# Altium integrated library NXP_60_26022015.IntLib: 1306 symbols (part 10 of 28)
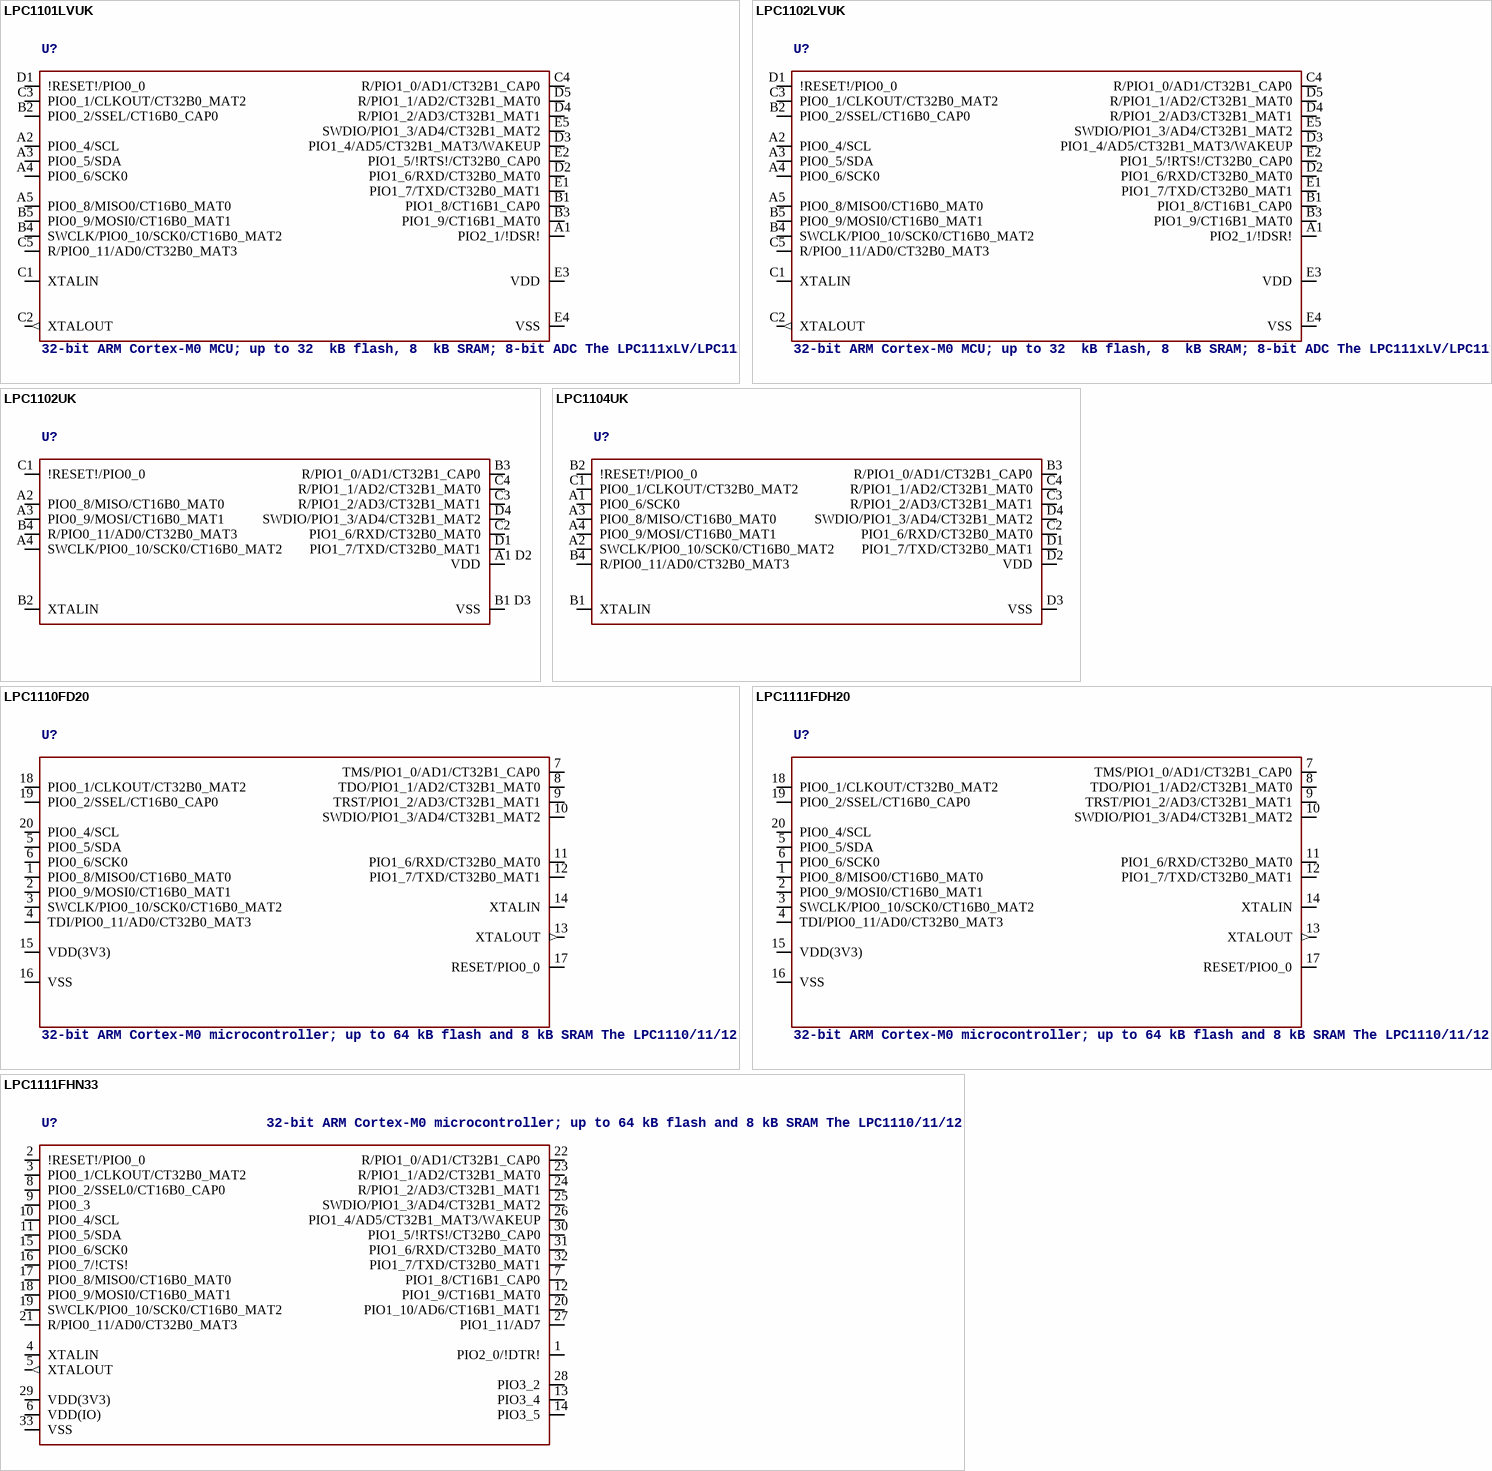
[diagram p194: symbols LPC1101LVUK to LPC1111FHN33]

## LPC1102LVUK
designator U?, comment 32-bit ARM Cortex-M0 MCU; up to 32  kB flash, 8  kB SRAM; 8-bit ADC The LPC111xLV/LPC11xxLVUK is an ARM Cortex-M0-based, low-cost 32-bit MCU family, designed for 8/16-bit microcontroller applications, offering performance, low power, simple instruction set and memory addressing together with reduced code size compared to existing 8/16-bit architectures. The LPC111xLV/LPC11xxLVUK operate at CPU frequencies of up to 50 MHz. The peripherals of the LPC111xLV/LPC11xxLVUK include up to 32 kB of flash memory, up to 8 kB of SRAM data memory, a Fast-mode Plus I 2 C-bus interface, one SSP/SPI interface, one UART, four general-purpose counter/timers, an 8-bit ADC, and up to 27 general-purpose I/O pins.    AAL Eindhoven MK
footprint WLCSP25
pins: A1 PIO2_1/!DSR!, A2 PIO0_4/SCL, A3 PIO0_5/SDA, A4 PIO0_6/SCK0, A5 PIO0_8/MISO0/CT16B0_MAT0, B1 PIO1_8/CT16B1_CAP0, B2 PIO0_2/SSEL/CT16B0_CAP0, B3 PIO1_9/CT16B1_MAT0, B4 SWCLK/PIO0_10/SCK0/CT16B0_MAT2, B5 PIO0_9/MOSI0/CT16B0_MAT1, C1 XTALIN, C2 XTALOUT (out), C3 PIO0_1/CLKOUT/CT32B0_MAT2, C4 R/PIO1_0/AD1/CT32B1_CAP0, C5 R/PIO0_11/AD0/CT32B0_MAT3, D1 !RESET!/PIO0_0, D2 PIO1_6/RXD/CT32B0_MAT0, D3 PIO1_4/AD5/CT32B1_MAT3/WAKEUP, D4 R/PIO1_2/AD3/CT32B1_MAT1, D5 R/PIO1_1/AD2/CT32B1_MAT0, E1 PIO1_7/TXD/CT32B0_MAT1, E2 PIO1_5/!RTS!/CT32B0_CAP0, E3 VDD (power), E4 VSS (power), E5 SWDIO/PIO1_3/AD4/CT32B1_MAT2

## LPC1102UK
designator U?
footprint WLCSP16
pins: A1 D2 VDD (power), A2 PIO0_8/MISO/CT16B0_MAT0, A3 PIO0_9/MOSI/CT16B0_MAT1, A4 SWCLK/PIO0_10/SCK0/CT16B0_MAT2, B1 D3 VSS (power), B2 XTALIN, B3 R/PIO1_0/AD1/CT32B1_CAP0, B4 R/PIO0_11/AD0/CT32B0_MAT3, C1 !RESET!/PIO0_0, C2 PIO1_6/RXD/CT32B0_MAT0, C3 R/PIO1_2/AD3/CT32B1_MAT1, C4 R/PIO1_1/AD2/CT32B1_MAT0, D1 PIO1_7/TXD/CT32B0_MAT1, D4 SWDIO/PIO1_3/AD4/CT32B1_MAT2

## LPC1104UK
designator U?
footprint WLCSP16
pins: A1 PIO0_6/SCK0, A2 SWCLK/PIO0_10/SCK0/CT16B0_MAT2, A3 PIO0_8/MISO/CT16B0_MAT0, A4 PIO0_9/MOSI/CT16B0_MAT1, B1 XTALIN, B2 !RESET!/PIO0_0, B3 R/PIO1_0/AD1/CT32B1_CAP0, B4 R/PIO0_11/AD0/CT32B0_MAT3, C1 PIO0_1/CLKOUT/CT32B0_MAT2, C2 PIO1_6/RXD/CT32B0_MAT0, C3 R/PIO1_2/AD3/CT32B1_MAT1, C4 R/PIO1_1/AD2/CT32B1_MAT0, D1 PIO1_7/TXD/CT32B0_MAT1, D2 VDD (power), D3 VSS (power), D4 SWDIO/PIO1_3/AD4/CT32B1_MAT2

## LPC1110FD20
designator U?, comment 32-bit ARM Cortex-M0 microcontroller; up to 64 kB flash and 8 kB SRAM The LPC1110/11/12/13/14/15 are a ARM Cortex-M0 based, low-cost 32-bit MCU family, designed for 8/16-bit microcontroller applications, offering performance, low power, simple instruction set and memory addressing together with reduced code size compared to existing 8/16-bit architectures. The LPC1110/11/12/13/14/15 operate at CPU frequencies of up to 50 MHz. The peripheral complement of the LPC1110/11/12/13/14/15 includes up to 64 kB of flash memory, up to 8 kB of data memory, one Fast-mode Plus I 2 C-bus interface, one RS-485/EIA-485 UART, up to two SPI interfaces with SSP features, four general purpose counter/timers, a 10-bit ADC, and up to 42 general purpose I/O pins. Remark: The LPC111x series consists of the LPC1100 series (parts LPC111x/101/201/301), LPC1100L series (parts LPC111x/002/102/202/302), and the LPC1100XL series (parts LPC111x/103/203/303/323/333). The LPC1100L and LPC1100XL series include the power profiles, a windowed watchdog timer, and a configurable open-drain mode.    AAL Eindhoven MK
ADC: 5; FLASH: 4kB; GPIO: 16; PWR_PROFILES: yes; SPI: 1; SRAM: 1kB; SERIES: LPC1100L
footprint SOT163-1
pins: 1 PIO0_8/MISO0/CT16B0_MAT0, 2 PIO0_9/MOSI0/CT16B0_MAT1, 3 SWCLK/PIO0_10/SCK0/CT16B0_MAT2, 4 TDI/PIO0_11/AD0/CT32B0_MAT3, 5 PIO0_5/SDA, 6 PIO0_6/SCK0, 7 TMS/PIO1_0/AD1/CT32B1_CAP0, 8 TDO/PIO1_1/AD2/CT32B1_MAT0, 9 TRST/PIO1_2/AD3/CT32B1_MAT1, 10 SWDIO/PIO1_3/AD4/CT32B1_MAT2, 11 PIO1_6/RXD/CT32B0_MAT0, 12 PIO1_7/TXD/CT32B0_MAT1, 13 XTALOUT (out), 14 XTALIN, 15 VDD(3V3) (power), 16 VSS (power), 17 RESET/PIO0_0, 18 PIO0_1/CLKOUT/CT32B0_MAT2, 19 PIO0_2/SSEL/CT16B0_CAP0, 20 PIO0_4/SCL

## LPC1111FDH20
designator U?, comment 32-bit ARM Cortex-M0 microcontroller; up to 64 kB flash and 8 kB SRAM The LPC1110/11/12/13/14/15 are a ARM Cortex-M0 based, low-cost 32-bit MCU family, designed for 8/16-bit microcontroller applications, offering performance, low power, simple instruction set and memory addressing together with reduced code size compared to existing 8/16-bit architectures. The LPC1110/11/12/13/14/15 operate at CPU frequencies of up to 50 MHz. The peripheral complement of the LPC1110/11/12/13/14/15 includes up to 64 kB of flash memory, up to 8 kB of data memory, one Fast-mode Plus I 2 C-bus interface, one RS-485/EIA-485 UART, up to two SPI interfaces with SSP features, four general purpose counter/timers, a 10-bit ADC, and up to 42 general purpose I/O pins. Remark: The LPC111x series consists of the LPC1100 series (parts LPC111x/101/201/301), LPC1100L series (parts LPC111x/002/102/202/302), and the LPC1100XL series (parts LPC111x/103/203/303/323/333). The LPC1100L and LPC1100XL series include the power profiles, a windowed watchdog timer, and a configurable open-drain mode.    AAL Eindhoven MK
ADC: 5; FLASH: 8kB; GPIO: 16; PWR_PROFILES: yes; SPI: 1; SRAM: 2kB; SERIES: LPC1100L
footprint SOT360
pins: 1 PIO0_8/MISO0/CT16B0_MAT0, 2 PIO0_9/MOSI0/CT16B0_MAT1, 3 SWCLK/PIO0_10/SCK0/CT16B0_MAT2, 4 TDI/PIO0_11/AD0/CT32B0_MAT3, 5 PIO0_5/SDA, 6 PIO0_6/SCK0, 7 TMS/PIO1_0/AD1/CT32B1_CAP0, 8 TDO/PIO1_1/AD2/CT32B1_MAT0, 9 TRST/PIO1_2/AD3/CT32B1_MAT1, 10 SWDIO/PIO1_3/AD4/CT32B1_MAT2, 11 PIO1_6/RXD/CT32B0_MAT0, 12 PIO1_7/TXD/CT32B0_MAT1, 13 XTALOUT (out), 14 XTALIN, 15 VDD(3V3) (power), 16 VSS (power), 17 RESET/PIO0_0, 18 PIO0_1/CLKOUT/CT32B0_MAT2, 19 PIO0_2/SSEL/CT16B0_CAP0, 20 PIO0_4/SCL

## LPC1111FHN33
designator U?, comment 32-bit ARM Cortex-M0 microcontroller; up to 64 kB flash and 8 kB SRAM The LPC1110/11/12/13/14/15 are a ARM Cortex-M0 based, low-cost 32-bit MCU family, designed for 8/16-bit microcontroller applications, offering performance, low power, simple instruction set and memory addressing together with reduced code size compared to existing 8/16-bit architectures. The LPC1110/11/12/13/14/15 operate at CPU frequencies of up to 50 MHz. The peripheral complement of the LPC1110/11/12/13/14/15 includes up to 64 kB of flash memory, up to 8 kB of data memory, one Fast-mode Plus I 2 C-bus interface, one RS-485/EIA-485 UART, up to two SPI interfaces with SSP features, four general purpose counter/timers, a 10-bit ADC, and up to 42 general purpose I/O pins. Remark: The LPC111x series consists of the LPC1100 series (parts LPC111x/101/201/301), LPC1100L series (parts LPC111x/002/102/202/302), and the LPC1100XL series (parts LPC111x/103/203/303/323/333). The LPC1100L and LPC1100XL series include the power profiles, a windowed watchdog timer, and a configurable open-drain mode.    AAL Eindhoven MK
ADC: 8; FLASH: 8kB; GPIO: 28; PWR_PROFILES: no; SPI: 1; SRAM: 2kB; PWR_PROFILES: yes; SRAM: 4kB; SERIES: LPC1100; SERIES: LPC1100L; FLASH: 8KB
footprint SOT-HVQFN33
pins: 1 PIO2_0/!DTR!, 2 !RESET!/PIO0_0, 3 PIO0_1/CLKOUT/CT32B0_MAT2, 4 XTALIN, 5 XTALOUT (out), 6 VDD(IO) (power), 7 PIO1_8/CT16B1_CAP0, 8 PIO0_2/SSEL0/CT16B0_CAP0, 9 PIO0_3, 10 PIO0_4/SCL, 11 PIO0_5/SDA, 12 PIO1_9/CT16B1_MAT0, 13 PIO3_4, 14 PIO3_5, 15 PIO0_6/SCK0, 16 PIO0_7/!CTS!, 17 PIO0_8/MISO0/CT16B0_MAT0, 18 PIO0_9/MOSI0/CT16B0_MAT1, 19 SWCLK/PIO0_10/SCK0/CT16B0_MAT2, 20 PIO1_10/AD6/CT16B1_MAT1, 21 R/PIO0_11/AD0/CT32B0_MAT3, 22 R/PIO1_0/AD1/CT32B1_CAP0, 23 R/PIO1_1/AD2/CT32B1_MAT0, 24 R/PIO1_2/AD3/CT32B1_MAT1, 25 SWDIO/PIO1_3/AD4/CT32B1_MAT2, 26 PIO1_4/AD5/CT32B1_MAT3/WAKEUP, 27 PIO1_11/AD7, 28 PIO3_2, 29 VDD(3V3) (power), 30 PIO1_5/!RTS!/CT32B0_CAP0, 31 PIO1_6/RXD/CT32B0_MAT0, 32 PIO1_7/TXD/CT32B0_MAT1, 33 VSS (power)

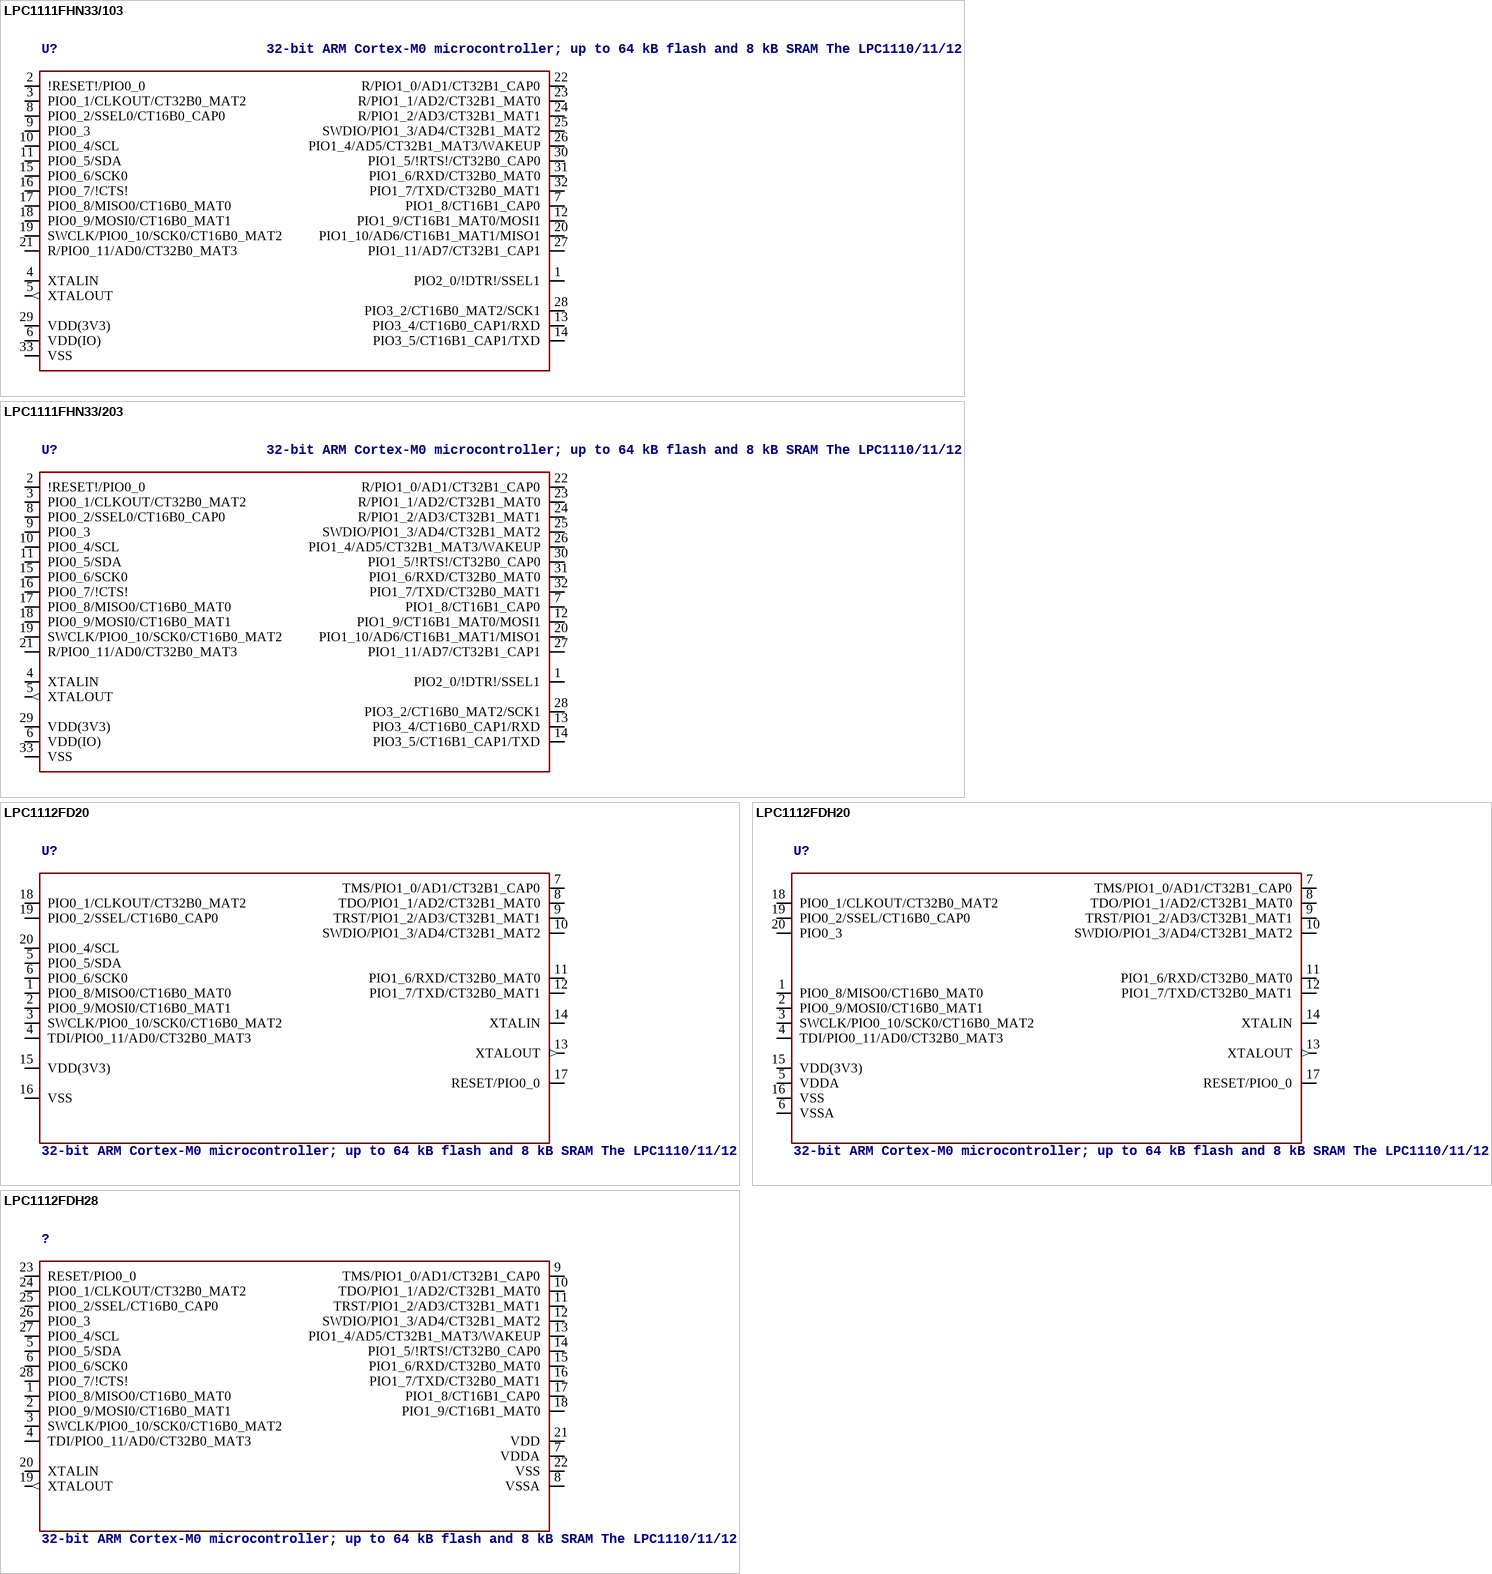
[diagram p57: symbols LPC1111FHN33/103 to LPC1112FDH28]

## LPC1111FHN33/103
designator U?, comment 32-bit ARM Cortex-M0 microcontroller; up to 64 kB flash and 8 kB SRAM The LPC1110/11/12/13/14/15 are a ARM Cortex-M0 based, low-cost 32-bit MCU family, designed for 8/16-bit microcontroller applications, offering performance, low power, simple instruction set and memory addressing together with reduced code size compared to existing 8/16-bit architectures. The LPC1110/11/12/13/14/15 operate at CPU frequencies of up to 50 MHz. The peripheral complement of the LPC1110/11/12/13/14/15 includes up to 64 kB of flash memory, up to 8 kB of data memory, one Fast-mode Plus I 2 C-bus interface, one RS-485/EIA-485 UART, up to two SPI interfaces with SSP features, four general purpose counter/timers, a 10-bit ADC, and up to 42 general purpose I/O pins. Remark: The LPC111x series consists of the LPC1100 series (parts LPC111x/101/201/301), LPC1100L series (parts LPC111x/002/102/202/302), and the LPC1100XL series (parts LPC111x/103/203/303/323/333). The LPC1100L and LPC1100XL series include the power profiles, a windowed watchdog timer, and a configurable open-drain mode.    AAL Eindhoven MK
ADC: 8; FLASH: 8kB; GPIO: 28; PWR_PROFILES: yes; SPI: 2; SRAM: 2kB; SERIES: LPC1100XL
footprint SOT-HVQFN33
pins: 1 PIO2_0/!DTR!/SSEL1, 2 !RESET!/PIO0_0, 3 PIO0_1/CLKOUT/CT32B0_MAT2, 4 XTALIN, 5 XTALOUT (out), 6 VDD(IO) (power), 7 PIO1_8/CT16B1_CAP0, 8 PIO0_2/SSEL0/CT16B0_CAP0, 9 PIO0_3, 10 PIO0_4/SCL, 11 PIO0_5/SDA, 12 PIO1_9/CT16B1_MAT0/MOSI1, 13 PIO3_4/CT16B0_CAP1/RXD, 14 PIO3_5/CT16B1_CAP1/TXD, 15 PIO0_6/SCK0, 16 PIO0_7/!CTS!, 17 PIO0_8/MISO0/CT16B0_MAT0, 18 PIO0_9/MOSI0/CT16B0_MAT1, 19 SWCLK/PIO0_10/SCK0/CT16B0_MAT2, 20 PIO1_10/AD6/CT16B1_MAT1/MISO1, 21 R/PIO0_11/AD0/CT32B0_MAT3, 22 R/PIO1_0/AD1/CT32B1_CAP0, 23 R/PIO1_1/AD2/CT32B1_MAT0, 24 R/PIO1_2/AD3/CT32B1_MAT1, 25 SWDIO/PIO1_3/AD4/CT32B1_MAT2, 26 PIO1_4/AD5/CT32B1_MAT3/WAKEUP, 27 PIO1_11/AD7/CT32B1_CAP1, 28 PIO3_2/CT16B0_MAT2/SCK1, 29 VDD(3V3) (power), 30 PIO1_5/!RTS!/CT32B0_CAP0, 31 PIO1_6/RXD/CT32B0_MAT0, 32 PIO1_7/TXD/CT32B0_MAT1, 33 VSS (power)

## LPC1111FHN33/203
designator U?, comment 32-bit ARM Cortex-M0 microcontroller; up to 64 kB flash and 8 kB SRAM The LPC1110/11/12/13/14/15 are a ARM Cortex-M0 based, low-cost 32-bit MCU family, designed for 8/16-bit microcontroller applications, offering performance, low power, simple instruction set and memory addressing together with reduced code size compared to existing 8/16-bit architectures. The LPC1110/11/12/13/14/15 operate at CPU frequencies of up to 50 MHz. The peripheral complement of the LPC1110/11/12/13/14/15 includes up to 64 kB of flash memory, up to 8 kB of data memory, one Fast-mode Plus I 2 C-bus interface, one RS-485/EIA-485 UART, up to two SPI interfaces with SSP features, four general purpose counter/timers, a 10-bit ADC, and up to 42 general purpose I/O pins. Remark: The LPC111x series consists of the LPC1100 series (parts LPC111x/101/201/301), LPC1100L series (parts LPC111x/002/102/202/302), and the LPC1100XL series (parts LPC111x/103/203/303/323/333). The LPC1100L and LPC1100XL series include the power profiles, a windowed watchdog timer, and a configurable open-drain mode.    AAL Eindhoven MK
ADC: 8; FLASH: 8kB; GPIO: 28; PWR_PROFILES: yes; SPI: 2; SRAM: 4kB; SERIES: LPC1100XL
footprint SOT-HVQFN33
pins: 1 PIO2_0/!DTR!/SSEL1, 2 !RESET!/PIO0_0, 3 PIO0_1/CLKOUT/CT32B0_MAT2, 4 XTALIN, 5 XTALOUT (out), 6 VDD(IO) (power), 7 PIO1_8/CT16B1_CAP0, 8 PIO0_2/SSEL0/CT16B0_CAP0, 9 PIO0_3, 10 PIO0_4/SCL, 11 PIO0_5/SDA, 12 PIO1_9/CT16B1_MAT0/MOSI1, 13 PIO3_4/CT16B0_CAP1/RXD, 14 PIO3_5/CT16B1_CAP1/TXD, 15 PIO0_6/SCK0, 16 PIO0_7/!CTS!, 17 PIO0_8/MISO0/CT16B0_MAT0, 18 PIO0_9/MOSI0/CT16B0_MAT1, 19 SWCLK/PIO0_10/SCK0/CT16B0_MAT2, 20 PIO1_10/AD6/CT16B1_MAT1/MISO1, 21 R/PIO0_11/AD0/CT32B0_MAT3, 22 R/PIO1_0/AD1/CT32B1_CAP0, 23 R/PIO1_1/AD2/CT32B1_MAT0, 24 R/PIO1_2/AD3/CT32B1_MAT1, 25 SWDIO/PIO1_3/AD4/CT32B1_MAT2, 26 PIO1_4/AD5/CT32B1_MAT3/WAKEUP, 27 PIO1_11/AD7/CT32B1_CAP1, 28 PIO3_2/CT16B0_MAT2/SCK1, 29 VDD(3V3) (power), 30 PIO1_5/!RTS!/CT32B0_CAP0, 31 PIO1_6/RXD/CT32B0_MAT0, 32 PIO1_7/TXD/CT32B0_MAT1, 33 VSS (power)

## LPC1112FD20
designator U?, comment 32-bit ARM Cortex-M0 microcontroller; up to 64 kB flash and 8 kB SRAM The LPC1110/11/12/13/14/15 are a ARM Cortex-M0 based, low-cost 32-bit MCU family, designed for 8/16-bit microcontroller applications, offering performance, low power, simple instruction set and memory addressing together with reduced code size compared to existing 8/16-bit architectures. The LPC1110/11/12/13/14/15 operate at CPU frequencies of up to 50 MHz. The peripheral complement of the LPC1110/11/12/13/14/15 includes up to 64 kB of flash memory, up to 8 kB of data memory, one Fast-mode Plus I 2 C-bus interface, one RS-485/EIA-485 UART, up to two SPI interfaces with SSP features, four general purpose counter/timers, a 10-bit ADC, and up to 42 general purpose I/O pins. Remark: The LPC111x series consists of the LPC1100 series (parts LPC111x/101/201/301), LPC1100L series (parts LPC111x/002/102/202/302), and the LPC1100XL series (parts LPC111x/103/203/303/323/333). The LPC1100L and LPC1100XL series include the power profiles, a windowed watchdog timer, and a configurable open-drain mode.    AAL Eindhoven MK
ADC: 5; FLASH: 16kB; GPIO: 16; PWR_PROFILES: yes; SPI: 1; SRAM: 4kB; SERIES: LPC1100L
footprint SOT163-1
pins: 1 PIO0_8/MISO0/CT16B0_MAT0, 2 PIO0_9/MOSI0/CT16B0_MAT1, 3 SWCLK/PIO0_10/SCK0/CT16B0_MAT2, 4 TDI/PIO0_11/AD0/CT32B0_MAT3, 5 PIO0_5/SDA, 6 PIO0_6/SCK0, 7 TMS/PIO1_0/AD1/CT32B1_CAP0, 8 TDO/PIO1_1/AD2/CT32B1_MAT0, 9 TRST/PIO1_2/AD3/CT32B1_MAT1, 10 SWDIO/PIO1_3/AD4/CT32B1_MAT2, 11 PIO1_6/RXD/CT32B0_MAT0, 12 PIO1_7/TXD/CT32B0_MAT1, 13 XTALOUT (out), 14 XTALIN, 15 VDD(3V3) (power), 16 VSS (power), 17 RESET/PIO0_0, 18 PIO0_1/CLKOUT/CT32B0_MAT2, 19 PIO0_2/SSEL/CT16B0_CAP0, 20 PIO0_4/SCL

## LPC1112FDH20
designator U?, comment 32-bit ARM Cortex-M0 microcontroller; up to 64 kB flash and 8 kB SRAM The LPC1110/11/12/13/14/15 are a ARM Cortex-M0 based, low-cost 32-bit MCU family, designed for 8/16-bit microcontroller applications, offering performance, low power, simple instruction set and memory addressing together with reduced code size compared to existing 8/16-bit architectures. The LPC1110/11/12/13/14/15 operate at CPU frequencies of up to 50 MHz. The peripheral complement of the LPC1110/11/12/13/14/15 includes up to 64 kB of flash memory, up to 8 kB of data memory, one Fast-mode Plus I 2 C-bus interface, one RS-485/EIA-485 UART, up to two SPI interfaces with SSP features, four general purpose counter/timers, a 10-bit ADC, and up to 42 general purpose I/O pins. Remark: The LPC111x series consists of the LPC1100 series (parts LPC111x/101/201/301), LPC1100L series (parts LPC111x/002/102/202/302), and the LPC1100XL series (parts LPC111x/103/203/303/323/333). The LPC1100L and LPC1100XL series include the power profiles, a windowed watchdog timer, and a configurable open-drain mode.    AAL Eindhoven MK
ADC: 5; FLASH: 16kB; GPIO: 14; PWR_PROFILES: yes; SPI: 1; SRAM: 4kB; SERIES: LPC1100L
footprint SOT360
pins: 1 PIO0_8/MISO0/CT16B0_MAT0, 2 PIO0_9/MOSI0/CT16B0_MAT1, 3 SWCLK/PIO0_10/SCK0/CT16B0_MAT2, 4 TDI/PIO0_11/AD0/CT32B0_MAT3, 5 VDDA (power), 6 VSSA (power), 7 TMS/PIO1_0/AD1/CT32B1_CAP0, 8 TDO/PIO1_1/AD2/CT32B1_MAT0, 9 TRST/PIO1_2/AD3/CT32B1_MAT1, 10 SWDIO/PIO1_3/AD4/CT32B1_MAT2, 11 PIO1_6/RXD/CT32B0_MAT0, 12 PIO1_7/TXD/CT32B0_MAT1, 13 XTALOUT (out), 14 XTALIN, 15 VDD(3V3) (power), 16 VSS (power), 17 RESET/PIO0_0, 18 PIO0_1/CLKOUT/CT32B0_MAT2, 19 PIO0_2/SSEL/CT16B0_CAP0, 20 PIO0_3

## LPC1112FDH28
designator ?, comment 32-bit ARM Cortex-M0 microcontroller; up to 64 kB flash and 8 kB SRAM The LPC1110/11/12/13/14/15 are a ARM Cortex-M0 based, low-cost 32-bit MCU family, designed for 8/16-bit microcontroller applications, offering performance, low power, simple instruction set and memory addressing together with reduced code size compared to existing 8/16-bit architectures. The LPC1110/11/12/13/14/15 operate at CPU frequencies of up to 50 MHz. The peripheral complement of the LPC1110/11/12/13/14/15 includes up to 64 kB of flash memory, up to 8 kB of data memory, one Fast-mode Plus I 2 C-bus interface, one RS-485/EIA-485 UART, up to two SPI interfaces with SSP features, four general purpose counter/timers, a 10-bit ADC, and up to 42 general purpose I/O pins. Remark: The LPC111x series consists of the LPC1100 series (parts LPC111x/101/201/301), LPC1100L series (parts LPC111x/002/102/202/302), and the LPC1100XL series (parts LPC111x/103/203/303/323/333). The LPC1100L and LPC1100XL series include the power profiles, a windowed watchdog timer, and a configurable open-drain mode.    AAL Eindhoven MK
ADC: 6; FLASH: 16kB; GPIO: 22; PWR_PROFILES: yes; SPI: 1; SRAM: 4kB; SERIES: LPC1100L
footprint SOT361-1
pins: 1 PIO0_8/MISO0/CT16B0_MAT0, 2 PIO0_9/MOSI0/CT16B0_MAT1, 3 SWCLK/PIO0_10/SCK0/CT16B0_MAT2, 4 TDI/PIO0_11/AD0/CT32B0_MAT3, 5 PIO0_5/SDA, 6 PIO0_6/SCK0, 7 VDDA (power), 8 VSSA (power), 9 TMS/PIO1_0/AD1/CT32B1_CAP0, 10 TDO/PIO1_1/AD2/CT32B1_MAT0, 11 TRST/PIO1_2/AD3/CT32B1_MAT1, 12 SWDIO/PIO1_3/AD4/CT32B1_MAT2, 13 PIO1_4/AD5/CT32B1_MAT3/WAKEUP, 14 PIO1_5/!RTS!/CT32B0_CAP0, 15 PIO1_6/RXD/CT32B0_MAT0, 16 PIO1_7/TXD/CT32B0_MAT1, 17 PIO1_8/CT16B1_CAP0, 18 PIO1_9/CT16B1_MAT0, 19 XTALOUT (out), 20 XTALIN, 21 VDD (power), 22 VSS (power), 23 RESET/PIO0_0, 24 PIO0_1/CLKOUT/CT32B0_MAT2, 25 PIO0_2/SSEL/CT16B0_CAP0, 26 PIO0_3, 27 PIO0_4/SCL, 28 PIO0_7/!CTS!

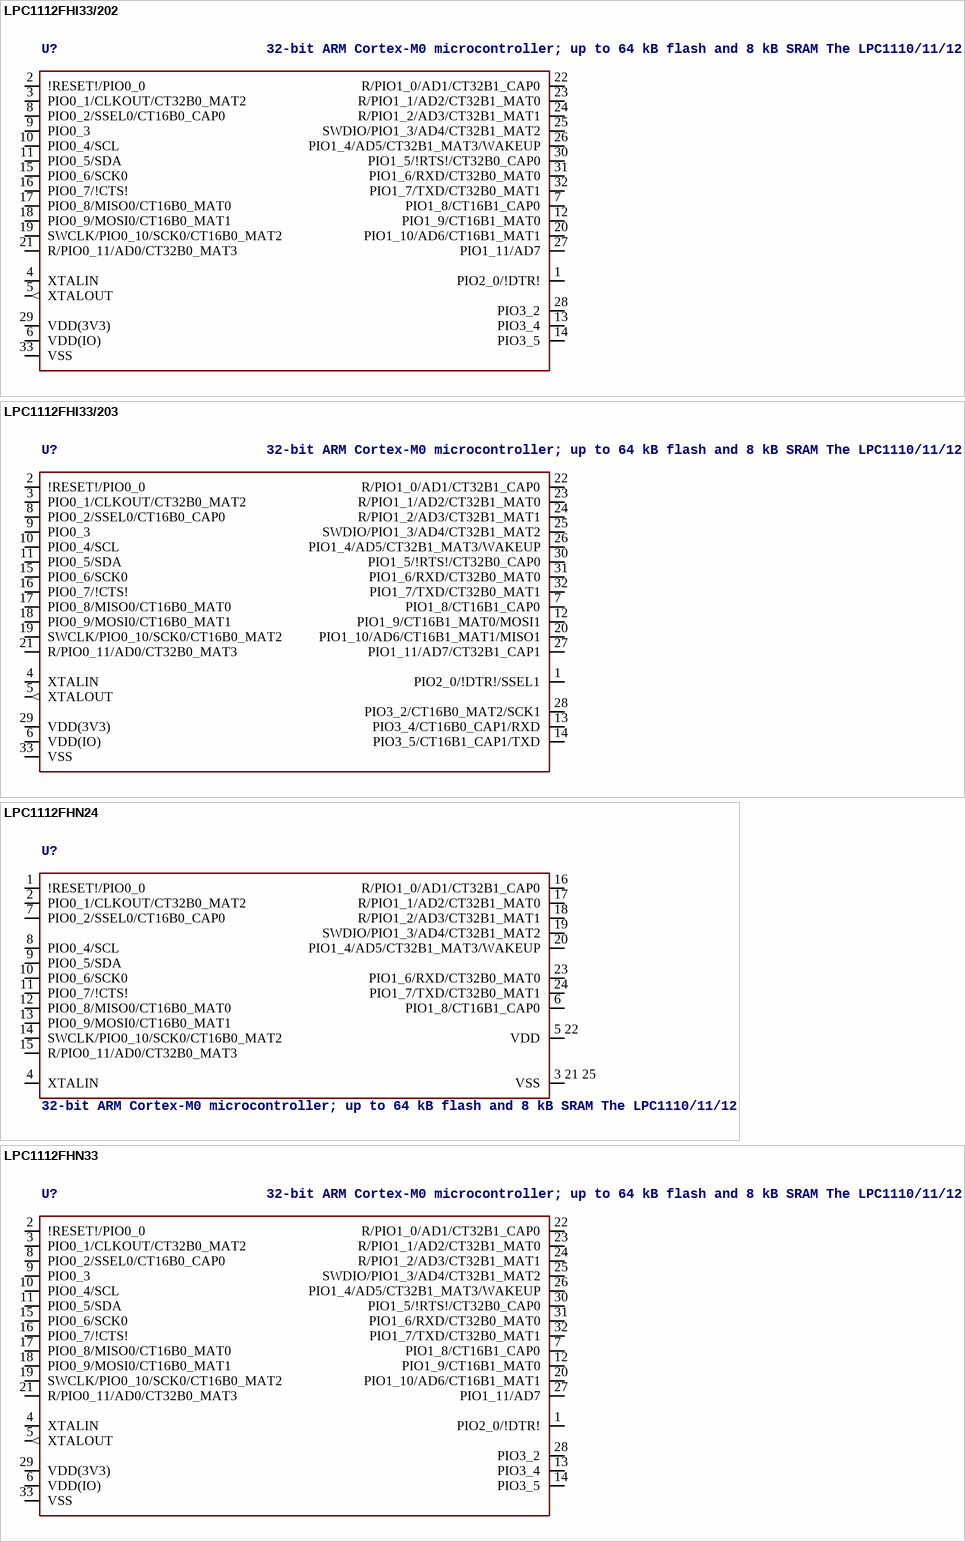
[diagram p58: symbols LPC1112FHI33/202 to LPC1112FHN33]

## LPC1112FHI33/202
designator U?, comment 32-bit ARM Cortex-M0 microcontroller; up to 64 kB flash and 8 kB SRAM The LPC1110/11/12/13/14/15 are a ARM Cortex-M0 based, low-cost 32-bit MCU family, designed for 8/16-bit microcontroller applications, offering performance, low power, simple instruction set and memory addressing together with reduced code size compared to existing 8/16-bit architectures. The LPC1110/11/12/13/14/15 operate at CPU frequencies of up to 50 MHz. The peripheral complement of the LPC1110/11/12/13/14/15 includes up to 64 kB of flash memory, up to 8 kB of data memory, one Fast-mode Plus I 2 C-bus interface, one RS-485/EIA-485 UART, up to two SPI interfaces with SSP features, four general purpose counter/timers, a 10-bit ADC, and up to 42 general purpose I/O pins. Remark: The LPC111x series consists of the LPC1100 series (parts LPC111x/101/201/301), LPC1100L series (parts LPC111x/002/102/202/302), and the LPC1100XL series (parts LPC111x/103/203/303/323/333). The LPC1100L and LPC1100XL series include the power profiles, a windowed watchdog timer, and a configurable open-drain mode.    AAL Eindhoven MK
ADC: 8; FLASH: 16kB; GPIO: 28; PWR_PROFILES: yes; SPI: 1; SRAM: 4kB; SERIES: LPC1100L
footprint SOT617-3
pins: 1 PIO2_0/!DTR!, 2 !RESET!/PIO0_0, 3 PIO0_1/CLKOUT/CT32B0_MAT2, 4 XTALIN, 5 XTALOUT (out), 6 VDD(IO) (power), 7 PIO1_8/CT16B1_CAP0, 8 PIO0_2/SSEL0/CT16B0_CAP0, 9 PIO0_3, 10 PIO0_4/SCL, 11 PIO0_5/SDA, 12 PIO1_9/CT16B1_MAT0, 13 PIO3_4, 14 PIO3_5, 15 PIO0_6/SCK0, 16 PIO0_7/!CTS!, 17 PIO0_8/MISO0/CT16B0_MAT0, 18 PIO0_9/MOSI0/CT16B0_MAT1, 19 SWCLK/PIO0_10/SCK0/CT16B0_MAT2, 20 PIO1_10/AD6/CT16B1_MAT1, 21 R/PIO0_11/AD0/CT32B0_MAT3, 22 R/PIO1_0/AD1/CT32B1_CAP0, 23 R/PIO1_1/AD2/CT32B1_MAT0, 24 R/PIO1_2/AD3/CT32B1_MAT1, 25 SWDIO/PIO1_3/AD4/CT32B1_MAT2, 26 PIO1_4/AD5/CT32B1_MAT3/WAKEUP, 27 PIO1_11/AD7, 28 PIO3_2, 29 VDD(3V3) (power), 30 PIO1_5/!RTS!/CT32B0_CAP0, 31 PIO1_6/RXD/CT32B0_MAT0, 32 PIO1_7/TXD/CT32B0_MAT1, 33 VSS (power)

## LPC1112FHI33/203
designator U?, comment 32-bit ARM Cortex-M0 microcontroller; up to 64 kB flash and 8 kB SRAM The LPC1110/11/12/13/14/15 are a ARM Cortex-M0 based, low-cost 32-bit MCU family, designed for 8/16-bit microcontroller applications, offering performance, low power, simple instruction set and memory addressing together with reduced code size compared to existing 8/16-bit architectures. The LPC1110/11/12/13/14/15 operate at CPU frequencies of up to 50 MHz. The peripheral complement of the LPC1110/11/12/13/14/15 includes up to 64 kB of flash memory, up to 8 kB of data memory, one Fast-mode Plus I 2 C-bus interface, one RS-485/EIA-485 UART, up to two SPI interfaces with SSP features, four general purpose counter/timers, a 10-bit ADC, and up to 42 general purpose I/O pins. Remark: The LPC111x series consists of the LPC1100 series (parts LPC111x/101/201/301), LPC1100L series (parts LPC111x/002/102/202/302), and the LPC1100XL series (parts LPC111x/103/203/303/323/333). The LPC1100L and LPC1100XL series include the power profiles, a windowed watchdog timer, and a configurable open-drain mode.    AAL Eindhoven MK
ADC: 8; FLASH: 16kB; GPIO: 28; PWR_PROFILES: yes; SPI: 2; SRAM: 4kB; SERIES: LPC1100XL
footprint SOT617-3
pins: 1 PIO2_0/!DTR!/SSEL1, 2 !RESET!/PIO0_0, 3 PIO0_1/CLKOUT/CT32B0_MAT2, 4 XTALIN, 5 XTALOUT (out), 6 VDD(IO) (power), 7 PIO1_8/CT16B1_CAP0, 8 PIO0_2/SSEL0/CT16B0_CAP0, 9 PIO0_3, 10 PIO0_4/SCL, 11 PIO0_5/SDA, 12 PIO1_9/CT16B1_MAT0/MOSI1, 13 PIO3_4/CT16B0_CAP1/RXD, 14 PIO3_5/CT16B1_CAP1/TXD, 15 PIO0_6/SCK0, 16 PIO0_7/!CTS!, 17 PIO0_8/MISO0/CT16B0_MAT0, 18 PIO0_9/MOSI0/CT16B0_MAT1, 19 SWCLK/PIO0_10/SCK0/CT16B0_MAT2, 20 PIO1_10/AD6/CT16B1_MAT1/MISO1, 21 R/PIO0_11/AD0/CT32B0_MAT3, 22 R/PIO1_0/AD1/CT32B1_CAP0, 23 R/PIO1_1/AD2/CT32B1_MAT0, 24 R/PIO1_2/AD3/CT32B1_MAT1, 25 SWDIO/PIO1_3/AD4/CT32B1_MAT2, 26 PIO1_4/AD5/CT32B1_MAT3/WAKEUP, 27 PIO1_11/AD7/CT32B1_CAP1, 28 PIO3_2/CT16B0_MAT2/SCK1, 29 VDD(3V3) (power), 30 PIO1_5/!RTS!/CT32B0_CAP0, 31 PIO1_6/RXD/CT32B0_MAT0, 32 PIO1_7/TXD/CT32B0_MAT1, 33 VSS (power)

## LPC1112FHN24
designator U?, comment 32-bit ARM Cortex-M0 microcontroller; up to 64 kB flash and 8 kB SRAM The LPC1110/11/12/13/14/15 are a ARM Cortex-M0 based, low-cost 32-bit MCU family, designed for 8/16-bit microcontroller applications, offering performance, low power, simple instruction set and memory addressing together with reduced code size compared to existing 8/16-bit architectures. The LPC1110/11/12/13/14/15 operate at CPU frequencies of up to 50 MHz. The peripheral complement of the LPC1110/11/12/13/14/15 includes up to 64 kB of flash memory, up to 8 kB of data memory, one Fast-mode Plus I 2 C-bus interface, one RS-485/EIA-485 UART, up to two SPI interfaces with SSP features, four general purpose counter/timers, a 10-bit ADC, and up to 42 general purpose I/O pins. Remark: The LPC111x series consists of the LPC1100 series (parts LPC111x/101/201/301), LPC1100L series (parts LPC111x/002/102/202/302), and the LPC1100XL series (parts LPC111x/103/203/303/323/333). The LPC1100L and LPC1100XL series include the power profiles, a windowed watchdog timer, and a configurable open-drain mode.    AAL Eindhoven MK
ADC: 6; FLASH: 16kB; GPIO: 19; PWR_PROFILES: yes; SPI: 1; SRAM: 4kB; SERIES: LPC1100L
footprint SOT616-1
pins: 1 !RESET!/PIO0_0, 2 PIO0_1/CLKOUT/CT32B0_MAT2, 3 21 25 VSS (power), 4 XTALIN, 5 22 VDD (power), 6 PIO1_8/CT16B1_CAP0, 7 PIO0_2/SSEL0/CT16B0_CAP0, 8 PIO0_4/SCL, 9 PIO0_5/SDA, 10 PIO0_6/SCK0, 11 PIO0_7/!CTS!, 12 PIO0_8/MISO0/CT16B0_MAT0, 13 PIO0_9/MOSI0/CT16B0_MAT1, 14 SWCLK/PIO0_10/SCK0/CT16B0_MAT2, 15 R/PIO0_11/AD0/CT32B0_MAT3, 16 R/PIO1_0/AD1/CT32B1_CAP0, 17 R/PIO1_1/AD2/CT32B1_MAT0, 18 R/PIO1_2/AD3/CT32B1_MAT1, 19 SWDIO/PIO1_3/AD4/CT32B1_MAT2, 20 PIO1_4/AD5/CT32B1_MAT3/WAKEUP, 23 PIO1_6/RXD/CT32B0_MAT0, 24 PIO1_7/TXD/CT32B0_MAT1

## LPC1112FHN33
designator U?, comment 32-bit ARM Cortex-M0 microcontroller; up to 64 kB flash and 8 kB SRAM The LPC1110/11/12/13/14/15 are a ARM Cortex-M0 based, low-cost 32-bit MCU family, designed for 8/16-bit microcontroller applications, offering performance, low power, simple instruction set and memory addressing together with reduced code size compared to existing 8/16-bit architectures. The LPC1110/11/12/13/14/15 operate at CPU frequencies of up to 50 MHz. The peripheral complement of the LPC1110/11/12/13/14/15 includes up to 64 kB of flash memory, up to 8 kB of data memory, one Fast-mode Plus I 2 C-bus interface, one RS-485/EIA-485 UART, up to two SPI interfaces with SSP features, four general purpose counter/timers, a 10-bit ADC, and up to 42 general purpose I/O pins. Remark: The LPC111x series consists of the LPC1100 series (parts LPC111x/101/201/301), LPC1100L series (parts LPC111x/002/102/202/302), and the LPC1100XL series (parts LPC111x/103/203/303/323/333). The LPC1100L and LPC1100XL series include the power profiles, a windowed watchdog timer, and a configurable open-drain mode.    AAL Eindhoven MK
ADC: 8; FLASH: 16kB; GPIO: 28; PWR_PROFILES: no; SPI: 1; SRAM: 2kB; PWR_PROFILES: yes; SRAM: 4kB; SERIES: LPC1100; SERIES: LPC1100L; FLASH: 16KB
footprint SOT-HVQFN33
pins: 1 PIO2_0/!DTR!, 2 !RESET!/PIO0_0, 3 PIO0_1/CLKOUT/CT32B0_MAT2, 4 XTALIN, 5 XTALOUT (out), 6 VDD(IO) (power), 7 PIO1_8/CT16B1_CAP0, 8 PIO0_2/SSEL0/CT16B0_CAP0, 9 PIO0_3, 10 PIO0_4/SCL, 11 PIO0_5/SDA, 12 PIO1_9/CT16B1_MAT0, 13 PIO3_4, 14 PIO3_5, 15 PIO0_6/SCK0, 16 PIO0_7/!CTS!, 17 PIO0_8/MISO0/CT16B0_MAT0, 18 PIO0_9/MOSI0/CT16B0_MAT1, 19 SWCLK/PIO0_10/SCK0/CT16B0_MAT2, 20 PIO1_10/AD6/CT16B1_MAT1, 21 R/PIO0_11/AD0/CT32B0_MAT3, 22 R/PIO1_0/AD1/CT32B1_CAP0, 23 R/PIO1_1/AD2/CT32B1_MAT0, 24 R/PIO1_2/AD3/CT32B1_MAT1, 25 SWDIO/PIO1_3/AD4/CT32B1_MAT2, 26 PIO1_4/AD5/CT32B1_MAT3/WAKEUP, 27 PIO1_11/AD7, 28 PIO3_2, 29 VDD(3V3) (power), 30 PIO1_5/!RTS!/CT32B0_CAP0, 31 PIO1_6/RXD/CT32B0_MAT0, 32 PIO1_7/TXD/CT32B0_MAT1, 33 VSS (power)

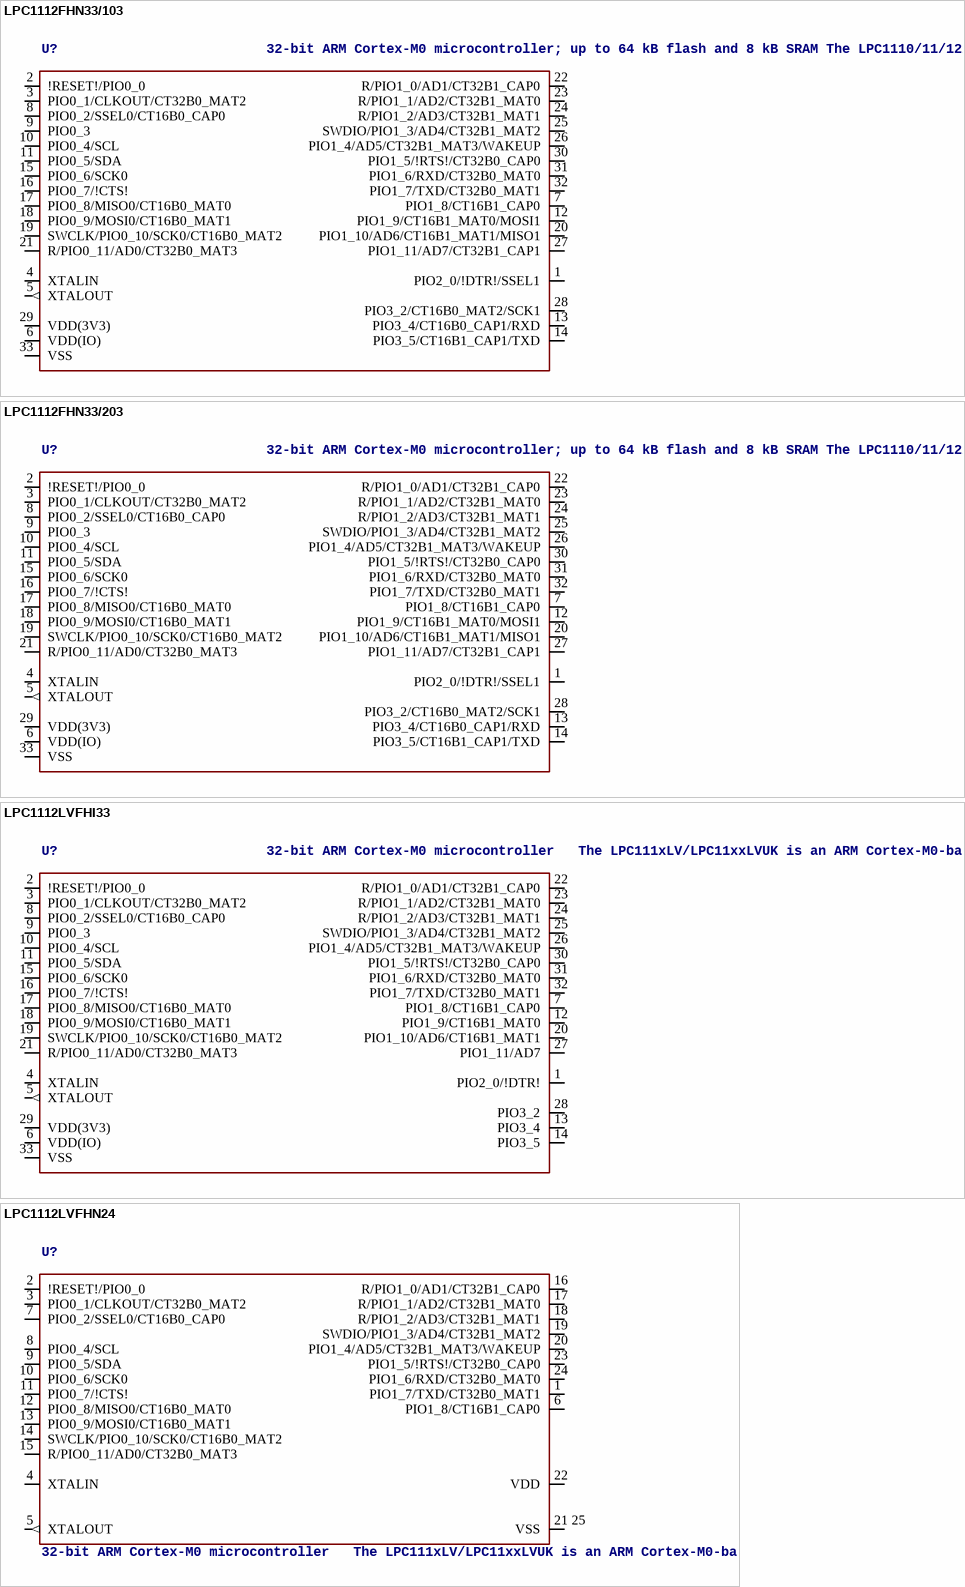
[diagram p59: symbols LPC1112FHN33/103 to LPC1112LVFHN24]

## LPC1112FHN33/103
designator U?, comment 32-bit ARM Cortex-M0 microcontroller; up to 64 kB flash and 8 kB SRAM The LPC1110/11/12/13/14/15 are a ARM Cortex-M0 based, low-cost 32-bit MCU family, designed for 8/16-bit microcontroller applications, offering performance, low power, simple instruction set and memory addressing together with reduced code size compared to existing 8/16-bit architectures. The LPC1110/11/12/13/14/15 operate at CPU frequencies of up to 50 MHz. The peripheral complement of the LPC1110/11/12/13/14/15 includes up to 64 kB of flash memory, up to 8 kB of data memory, one Fast-mode Plus I 2 C-bus interface, one RS-485/EIA-485 UART, up to two SPI interfaces with SSP features, four general purpose counter/timers, a 10-bit ADC, and up to 42 general purpose I/O pins. Remark: The LPC111x series consists of the LPC1100 series (parts LPC111x/101/201/301), LPC1100L series (parts LPC111x/002/102/202/302), and the LPC1100XL series (parts LPC111x/103/203/303/323/333). The LPC1100L and LPC1100XL series include the power profiles, a windowed watchdog timer, and a configurable open-drain mode.    AAL Eindhoven MK
ADC: 8; FLASH: 16kB; GPIO: 28; PWR_PROFILES: yes; SPI: 2; SRAM: 2kB; SERIES: LPC1100XL
footprint SOT-HVQFN33
pins: 1 PIO2_0/!DTR!/SSEL1, 2 !RESET!/PIO0_0, 3 PIO0_1/CLKOUT/CT32B0_MAT2, 4 XTALIN, 5 XTALOUT (out), 6 VDD(IO) (power), 7 PIO1_8/CT16B1_CAP0, 8 PIO0_2/SSEL0/CT16B0_CAP0, 9 PIO0_3, 10 PIO0_4/SCL, 11 PIO0_5/SDA, 12 PIO1_9/CT16B1_MAT0/MOSI1, 13 PIO3_4/CT16B0_CAP1/RXD, 14 PIO3_5/CT16B1_CAP1/TXD, 15 PIO0_6/SCK0, 16 PIO0_7/!CTS!, 17 PIO0_8/MISO0/CT16B0_MAT0, 18 PIO0_9/MOSI0/CT16B0_MAT1, 19 SWCLK/PIO0_10/SCK0/CT16B0_MAT2, 20 PIO1_10/AD6/CT16B1_MAT1/MISO1, 21 R/PIO0_11/AD0/CT32B0_MAT3, 22 R/PIO1_0/AD1/CT32B1_CAP0, 23 R/PIO1_1/AD2/CT32B1_MAT0, 24 R/PIO1_2/AD3/CT32B1_MAT1, 25 SWDIO/PIO1_3/AD4/CT32B1_MAT2, 26 PIO1_4/AD5/CT32B1_MAT3/WAKEUP, 27 PIO1_11/AD7/CT32B1_CAP1, 28 PIO3_2/CT16B0_MAT2/SCK1, 29 VDD(3V3) (power), 30 PIO1_5/!RTS!/CT32B0_CAP0, 31 PIO1_6/RXD/CT32B0_MAT0, 32 PIO1_7/TXD/CT32B0_MAT1, 33 VSS (power)

## LPC1112FHN33/203
designator U?, comment 32-bit ARM Cortex-M0 microcontroller; up to 64 kB flash and 8 kB SRAM The LPC1110/11/12/13/14/15 are a ARM Cortex-M0 based, low-cost 32-bit MCU family, designed for 8/16-bit microcontroller applications, offering performance, low power, simple instruction set and memory addressing together with reduced code size compared to existing 8/16-bit architectures. The LPC1110/11/12/13/14/15 operate at CPU frequencies of up to 50 MHz. The peripheral complement of the LPC1110/11/12/13/14/15 includes up to 64 kB of flash memory, up to 8 kB of data memory, one Fast-mode Plus I 2 C-bus interface, one RS-485/EIA-485 UART, up to two SPI interfaces with SSP features, four general purpose counter/timers, a 10-bit ADC, and up to 42 general purpose I/O pins. Remark: The LPC111x series consists of the LPC1100 series (parts LPC111x/101/201/301), LPC1100L series (parts LPC111x/002/102/202/302), and the LPC1100XL series (parts LPC111x/103/203/303/323/333). The LPC1100L and LPC1100XL series include the power profiles, a windowed watchdog timer, and a configurable open-drain mode.    AAL Eindhoven MK
ADC: 8; FLASH: 16kB; GPIO: 28; PWR_PROFILES: yes; SPI: 2; SRAM: 4kB; SERIES: LPC1100XL
footprint SOT-HVQFN33
pins: 1 PIO2_0/!DTR!/SSEL1, 2 !RESET!/PIO0_0, 3 PIO0_1/CLKOUT/CT32B0_MAT2, 4 XTALIN, 5 XTALOUT (out), 6 VDD(IO) (power), 7 PIO1_8/CT16B1_CAP0, 8 PIO0_2/SSEL0/CT16B0_CAP0, 9 PIO0_3, 10 PIO0_4/SCL, 11 PIO0_5/SDA, 12 PIO1_9/CT16B1_MAT0/MOSI1, 13 PIO3_4/CT16B0_CAP1/RXD, 14 PIO3_5/CT16B1_CAP1/TXD, 15 PIO0_6/SCK0, 16 PIO0_7/!CTS!, 17 PIO0_8/MISO0/CT16B0_MAT0, 18 PIO0_9/MOSI0/CT16B0_MAT1, 19 SWCLK/PIO0_10/SCK0/CT16B0_MAT2, 20 PIO1_10/AD6/CT16B1_MAT1/MISO1, 21 R/PIO0_11/AD0/CT32B0_MAT3, 22 R/PIO1_0/AD1/CT32B1_CAP0, 23 R/PIO1_1/AD2/CT32B1_MAT0, 24 R/PIO1_2/AD3/CT32B1_MAT1, 25 SWDIO/PIO1_3/AD4/CT32B1_MAT2, 26 PIO1_4/AD5/CT32B1_MAT3/WAKEUP, 27 PIO1_11/AD7/CT32B1_CAP1, 28 PIO3_2/CT16B0_MAT2/SCK1, 29 VDD(3V3) (power), 30 PIO1_5/!RTS!/CT32B0_CAP0, 31 PIO1_6/RXD/CT32B0_MAT0, 32 PIO1_7/TXD/CT32B0_MAT1, 33 VSS (power)

## LPC1112LVFHI33
designator U?, comment 32-bit ARM Cortex-M0 microcontroller   The LPC111xLV/LPC11xxLVUK is an ARM Cortex-M0-based, low-cost 32-bit MCU family, designed for 8/16-bit microcontroller applications, offering performance, low power, simple instruction set and memory addressing together with reduced code size compared to existing 8/16-bit architectures. The LPC111xLV/LPC11xxLVUK operate at CPU frequencies of up to 50 MHz. The peripherals of the LPC111xLV/LPC11xxLVUK include up to 32 kB of flash memory, up to 8 kB of SRAM data memory, a Fast-mode Plus I 2 C-bus interface, one SSP/SPI interface, one UART, four general-purpose counter/timers, an 8-bit ADC, and up to 27 general-purpose I/O pins.    MK - Datasheet available on www.nxp.com
footprint SOT617-3
pins: 1 PIO2_0/!DTR!, 2 !RESET!/PIO0_0, 3 PIO0_1/CLKOUT/CT32B0_MAT2, 4 XTALIN, 5 XTALOUT (out), 6 VDD(IO) (power), 7 PIO1_8/CT16B1_CAP0, 8 PIO0_2/SSEL0/CT16B0_CAP0, 9 PIO0_3, 10 PIO0_4/SCL, 11 PIO0_5/SDA, 12 PIO1_9/CT16B1_MAT0, 13 PIO3_4, 14 PIO3_5, 15 PIO0_6/SCK0, 16 PIO0_7/!CTS!, 17 PIO0_8/MISO0/CT16B0_MAT0, 18 PIO0_9/MOSI0/CT16B0_MAT1, 19 SWCLK/PIO0_10/SCK0/CT16B0_MAT2, 20 PIO1_10/AD6/CT16B1_MAT1, 21 R/PIO0_11/AD0/CT32B0_MAT3, 22 R/PIO1_0/AD1/CT32B1_CAP0, 23 R/PIO1_1/AD2/CT32B1_MAT0, 24 R/PIO1_2/AD3/CT32B1_MAT1, 25 SWDIO/PIO1_3/AD4/CT32B1_MAT2, 26 PIO1_4/AD5/CT32B1_MAT3/WAKEUP, 27 PIO1_11/AD7, 28 PIO3_2, 29 VDD(3V3) (power), 30 PIO1_5/!RTS!/CT32B0_CAP0, 31 PIO1_6/RXD/CT32B0_MAT0, 32 PIO1_7/TXD/CT32B0_MAT1, 33 VSS (power)

## LPC1112LVFHN24
designator U?, comment 32-bit ARM Cortex-M0 microcontroller   The LPC111xLV/LPC11xxLVUK is an ARM Cortex-M0-based, low-cost 32-bit MCU family, designed for 8/16-bit microcontroller applications, offering performance, low power, simple instruction set and memory addressing together with reduced code size compared to existing 8/16-bit architectures. The LPC111xLV/LPC11xxLVUK operate at CPU frequencies of up to 50 MHz. The peripherals of the LPC111xLV/LPC11xxLVUK include up to 32 kB of flash memory, up to 8 kB of SRAM data memory, a Fast-mode Plus I 2 C-bus interface, one SSP/SPI interface, one UART, four general-purpose counter/timers, an 8-bit ADC, and up to 27 general-purpose I/O pins.    MK - Datasheet available on www.nxp.com
footprint SOT616-1
pins: 1 PIO1_7/TXD/CT32B0_MAT1, 2 !RESET!/PIO0_0, 3 PIO0_1/CLKOUT/CT32B0_MAT2, 4 XTALIN, 5 XTALOUT (out), 6 PIO1_8/CT16B1_CAP0, 7 PIO0_2/SSEL0/CT16B0_CAP0, 8 PIO0_4/SCL, 9 PIO0_5/SDA, 10 PIO0_6/SCK0, 11 PIO0_7/!CTS!, 12 PIO0_8/MISO0/CT16B0_MAT0, 13 PIO0_9/MOSI0/CT16B0_MAT1, 14 SWCLK/PIO0_10/SCK0/CT16B0_MAT2, 15 R/PIO0_11/AD0/CT32B0_MAT3, 16 R/PIO1_0/AD1/CT32B1_CAP0, 17 R/PIO1_1/AD2/CT32B1_MAT0, 18 R/PIO1_2/AD3/CT32B1_MAT1, 19 SWDIO/PIO1_3/AD4/CT32B1_MAT2, 20 PIO1_4/AD5/CT32B1_MAT3/WAKEUP, 21 25 VSS (power), 22 VDD (power), 23 PIO1_5/!RTS!/CT32B0_CAP0, 24 PIO1_6/RXD/CT32B0_MAT0

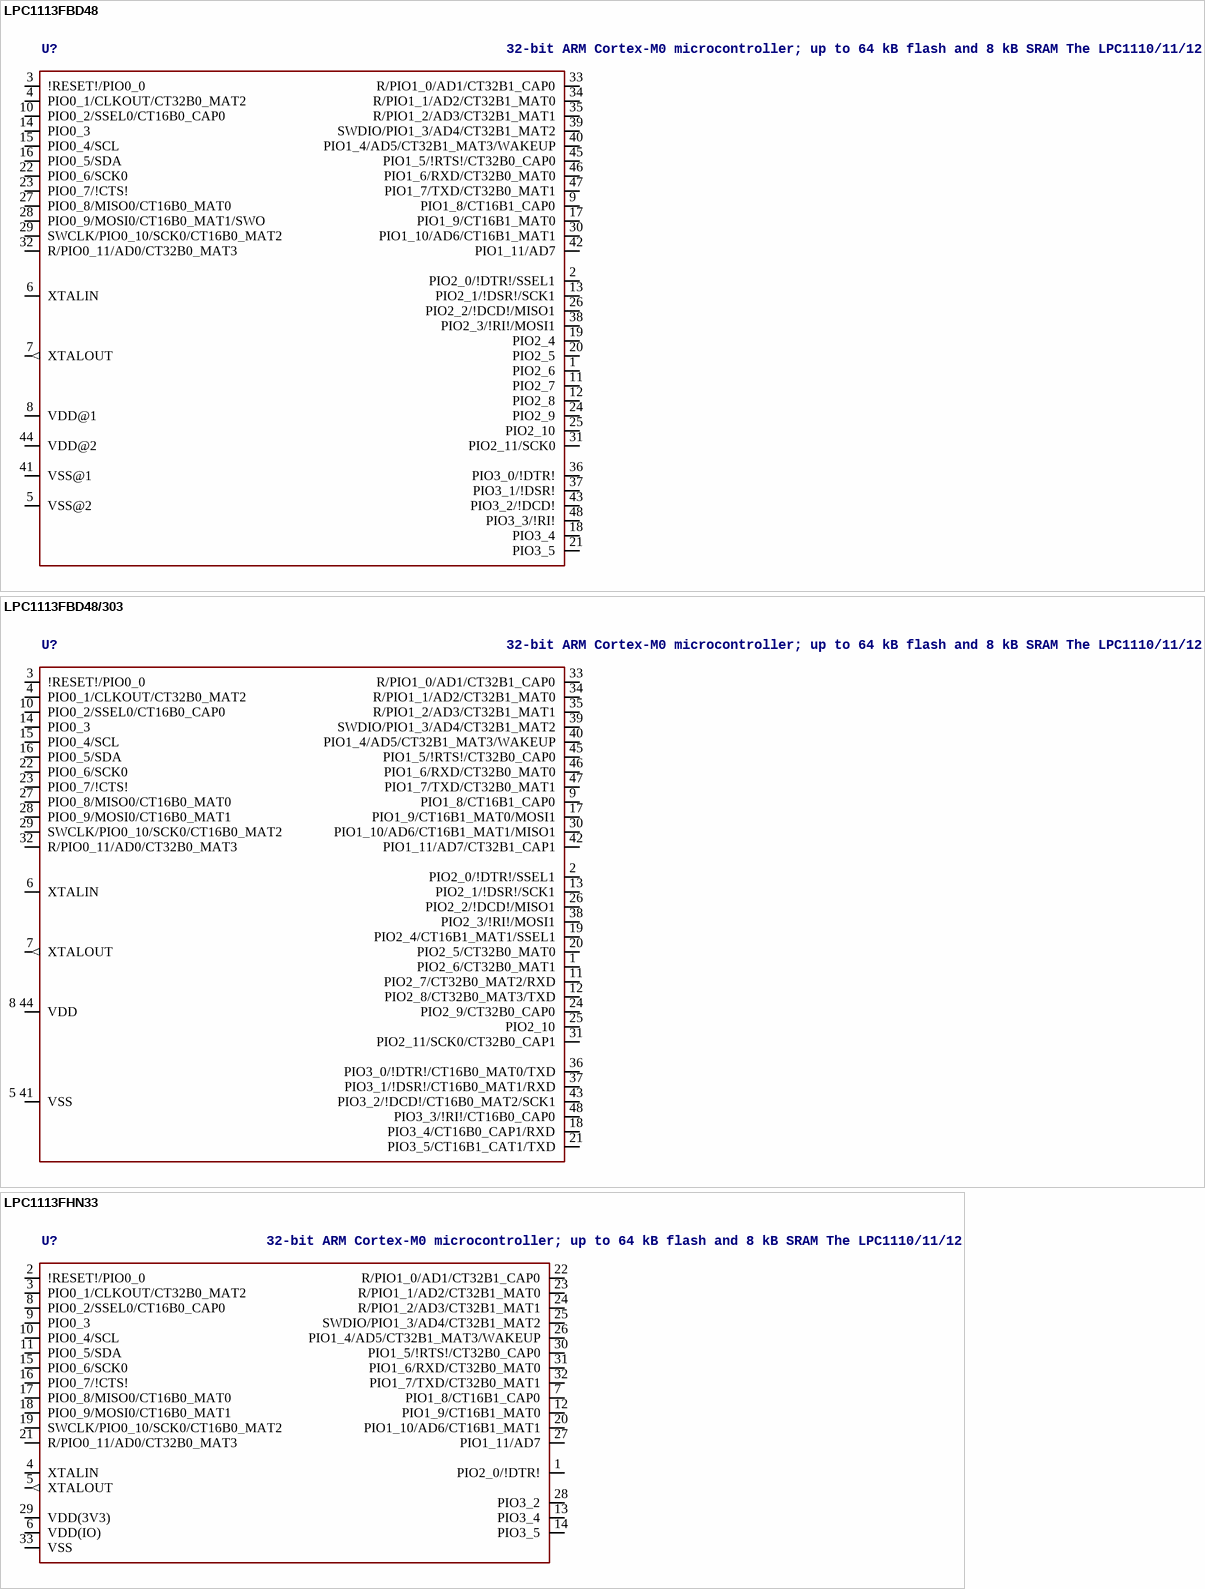
[diagram p60: symbols LPC1113FBD48 to LPC1113FHN33]

## LPC1113FBD48
designator U?, comment 32-bit ARM Cortex-M0 microcontroller; up to 64 kB flash and 8 kB SRAM The LPC1110/11/12/13/14/15 are a ARM Cortex-M0 based, low-cost 32-bit MCU family, designed for 8/16-bit microcontroller applications, offering performance, low power, simple instruction set and memory addressing together with reduced code size compared to existing 8/16-bit architectures. The LPC1110/11/12/13/14/15 operate at CPU frequencies of up to 50 MHz. The peripheral complement of the LPC1110/11/12/13/14/15 includes up to 64 kB of flash memory, up to 8 kB of data memory, one Fast-mode Plus I 2 C-bus interface, one RS-485/EIA-485 UART, up to two SPI interfaces with SSP features, four general purpose counter/timers, a 10-bit ADC, and up to 42 general purpose I/O pins. Remark: The LPC111x series consists of the LPC1100 series (parts LPC111x/101/201/301), LPC1100L series (parts LPC111x/002/102/202/302), and the LPC1100XL series (parts LPC111x/103/203/303/323/333). The LPC1100L and LPC1100XL series include the power profiles, a windowed watchdog timer, and a configurable open-drain mode.    AAL Eindhoven MK
ADC: 8; FLASH: 24kB; GPIO: 42; PWR_PROFILES: no; SPI: 2; SRAM: 8kB; PWR_PROFILES: yes; SERIES: LPC1100; SERIES: LPC1100L
footprint SOT313-2
pins: 1 PIO2_6, 2 PIO2_0/!DTR!/SSEL1, 3 !RESET!/PIO0_0, 4 PIO0_1/CLKOUT/CT32B0_MAT2, 5 VSS@2 (power), 6 XTALIN, 7 XTALOUT (out), 8 VDD@1 (power), 9 PIO1_8/CT16B1_CAP0, 10 PIO0_2/SSEL0/CT16B0_CAP0, 11 PIO2_7, 12 PIO2_8, 13 PIO2_1/!DSR!/SCK1, 14 PIO0_3, 15 PIO0_4/SCL, 16 PIO0_5/SDA, 17 PIO1_9/CT16B1_MAT0, 18 PIO3_4, 19 PIO2_4, 20 PIO2_5, 21 PIO3_5, 22 PIO0_6/SCK0, 23 PIO0_7/!CTS!, 24 PIO2_9, 25 PIO2_10, 26 PIO2_2/!DCD!/MISO1, 27 PIO0_8/MISO0/CT16B0_MAT0, 28 PIO0_9/MOSI0/CT16B0_MAT1/SWO, 29 SWCLK/PIO0_10/SCK0/CT16B0_MAT2, 30 PIO1_10/AD6/CT16B1_MAT1, 31 PIO2_11/SCK0, 32 R/PIO0_11/AD0/CT32B0_MAT3, 33 R/PIO1_0/AD1/CT32B1_CAP0, 34 R/PIO1_1/AD2/CT32B1_MAT0, 35 R/PIO1_2/AD3/CT32B1_MAT1, 36 PIO3_0/!DTR!, 37 PIO3_1/!DSR!, 38 PIO2_3/!RI!/MOSI1, 39 SWDIO/PIO1_3/AD4/CT32B1_MAT2, 40 PIO1_4/AD5/CT32B1_MAT3/WAKEUP, 41 VSS@1 (power), 42 PIO1_11/AD7, 43 PIO3_2/!DCD!, 44 VDD@2 (power), 45 PIO1_5/!RTS!/CT32B0_CAP0, 46 PIO1_6/RXD/CT32B0_MAT0, 47 PIO1_7/TXD/CT32B0_MAT1, 48 PIO3_3/!RI!

## LPC1113FBD48/303
designator U?, comment 32-bit ARM Cortex-M0 microcontroller; up to 64 kB flash and 8 kB SRAM The LPC1110/11/12/13/14/15 are a ARM Cortex-M0 based, low-cost 32-bit MCU family, designed for 8/16-bit microcontroller applications, offering performance, low power, simple instruction set and memory addressing together with reduced code size compared to existing 8/16-bit architectures. The LPC1110/11/12/13/14/15 operate at CPU frequencies of up to 50 MHz. The peripheral complement of the LPC1110/11/12/13/14/15 includes up to 64 kB of flash memory, up to 8 kB of data memory, one Fast-mode Plus I 2 C-bus interface, one RS-485/EIA-485 UART, up to two SPI interfaces with SSP features, four general purpose counter/timers, a 10-bit ADC, and up to 42 general purpose I/O pins. Remark: The LPC111x series consists of the LPC1100 series (parts LPC111x/101/201/301), LPC1100L series (parts LPC111x/002/102/202/302), and the LPC1100XL series (parts LPC111x/103/203/303/323/333). The LPC1100L and LPC1100XL series include the power profiles, a windowed watchdog timer, and a configurable open-drain mode.    AAL Eindhoven MK
ADC: 8; FLASH: 24kB; GPIO: 42; PWR_PROFILES: yes; SPI: 2; SRAM: 8kB; SERIES: LPC1100XL
footprint SOT313-2
pins: 1 PIO2_6/CT32B0_MAT1, 2 PIO2_0/!DTR!/SSEL1, 3 !RESET!/PIO0_0, 4 PIO0_1/CLKOUT/CT32B0_MAT2, 5 41 VSS (power), 6 XTALIN, 7 XTALOUT (out), 8 44 VDD (power), 9 PIO1_8/CT16B1_CAP0, 10 PIO0_2/SSEL0/CT16B0_CAP0, 11 PIO2_7/CT32B0_MAT2/RXD, 12 PIO2_8/CT32B0_MAT3/TXD, 13 PIO2_1/!DSR!/SCK1, 14 PIO0_3, 15 PIO0_4/SCL, 16 PIO0_5/SDA, 17 PIO1_9/CT16B1_MAT0/MOSI1, 18 PIO3_4/CT16B0_CAP1/RXD, 19 PIO2_4/CT16B1_MAT1/SSEL1, 20 PIO2_5/CT32B0_MAT0, 21 PIO3_5/CT16B1_CAT1/TXD, 22 PIO0_6/SCK0, 23 PIO0_7/!CTS!, 24 PIO2_9/CT32B0_CAP0, 25 PIO2_10, 26 PIO2_2/!DCD!/MISO1, 27 PIO0_8/MISO0/CT16B0_MAT0, 28 PIO0_9/MOSI0/CT16B0_MAT1, 29 SWCLK/PIO0_10/SCK0/CT16B0_MAT2, 30 PIO1_10/AD6/CT16B1_MAT1/MISO1, 31 PIO2_11/SCK0/CT32B0_CAP1, 32 R/PIO0_11/AD0/CT32B0_MAT3, 33 R/PIO1_0/AD1/CT32B1_CAP0, 34 R/PIO1_1/AD2/CT32B1_MAT0, 35 R/PIO1_2/AD3/CT32B1_MAT1, 36 PIO3_0/!DTR!/CT16B0_MAT0/TXD, 37 PIO3_1/!DSR!/CT16B0_MAT1/RXD, 38 PIO2_3/!RI!/MOSI1, 39 SWDIO/PIO1_3/AD4/CT32B1_MAT2, 40 PIO1_4/AD5/CT32B1_MAT3/WAKEUP, 42 PIO1_11/AD7/CT32B1_CAP1, 43 PIO3_2/!DCD!/CT16B0_MAT2/SCK1, 45 PIO1_5/!RTS!/CT32B0_CAP0, 46 PIO1_6/RXD/CT32B0_MAT0, 47 PIO1_7/TXD/CT32B0_MAT1, 48 PIO3_3/!RI!/CT16B0_CAP0

## LPC1113FHN33
designator U?, comment 32-bit ARM Cortex-M0 microcontroller; up to 64 kB flash and 8 kB SRAM The LPC1110/11/12/13/14/15 are a ARM Cortex-M0 based, low-cost 32-bit MCU family, designed for 8/16-bit microcontroller applications, offering performance, low power, simple instruction set and memory addressing together with reduced code size compared to existing 8/16-bit architectures. The LPC1110/11/12/13/14/15 operate at CPU frequencies of up to 50 MHz. The peripheral complement of the LPC1110/11/12/13/14/15 includes up to 64 kB of flash memory, up to 8 kB of data memory, one Fast-mode Plus I 2 C-bus interface, one RS-485/EIA-485 UART, up to two SPI interfaces with SSP features, four general purpose counter/timers, a 10-bit ADC, and up to 42 general purpose I/O pins. Remark: The LPC111x series consists of the LPC1100 series (parts LPC111x/101/201/301), LPC1100L series (parts LPC111x/002/102/202/302), and the LPC1100XL series (parts LPC111x/103/203/303/323/333). The LPC1100L and LPC1100XL series include the power profiles, a windowed watchdog timer, and a configurable open-drain mode.    AAL Eindhoven MK
ADC: 8; FLASH: 24kB; GPIO: 28; PWR_PROFILES: no; SPI: 1; SRAM: 4kB; PWR_PROFILES: yes; SRAM: 8kB; SERIES: LPC1100; FLASH: 24KB; SERIES: LPC1100L
footprint SOT-HVQFN33
pins: 1 PIO2_0/!DTR!, 2 !RESET!/PIO0_0, 3 PIO0_1/CLKOUT/CT32B0_MAT2, 4 XTALIN, 5 XTALOUT (out), 6 VDD(IO) (power), 7 PIO1_8/CT16B1_CAP0, 8 PIO0_2/SSEL0/CT16B0_CAP0, 9 PIO0_3, 10 PIO0_4/SCL, 11 PIO0_5/SDA, 12 PIO1_9/CT16B1_MAT0, 13 PIO3_4, 14 PIO3_5, 15 PIO0_6/SCK0, 16 PIO0_7/!CTS!, 17 PIO0_8/MISO0/CT16B0_MAT0, 18 PIO0_9/MOSI0/CT16B0_MAT1, 19 SWCLK/PIO0_10/SCK0/CT16B0_MAT2, 20 PIO1_10/AD6/CT16B1_MAT1, 21 R/PIO0_11/AD0/CT32B0_MAT3, 22 R/PIO1_0/AD1/CT32B1_CAP0, 23 R/PIO1_1/AD2/CT32B1_MAT0, 24 R/PIO1_2/AD3/CT32B1_MAT1, 25 SWDIO/PIO1_3/AD4/CT32B1_MAT2, 26 PIO1_4/AD5/CT32B1_MAT3/WAKEUP, 27 PIO1_11/AD7, 28 PIO3_2, 29 VDD(3V3) (power), 30 PIO1_5/!RTS!/CT32B0_CAP0, 31 PIO1_6/RXD/CT32B0_MAT0, 32 PIO1_7/TXD/CT32B0_MAT1, 33 VSS (power)

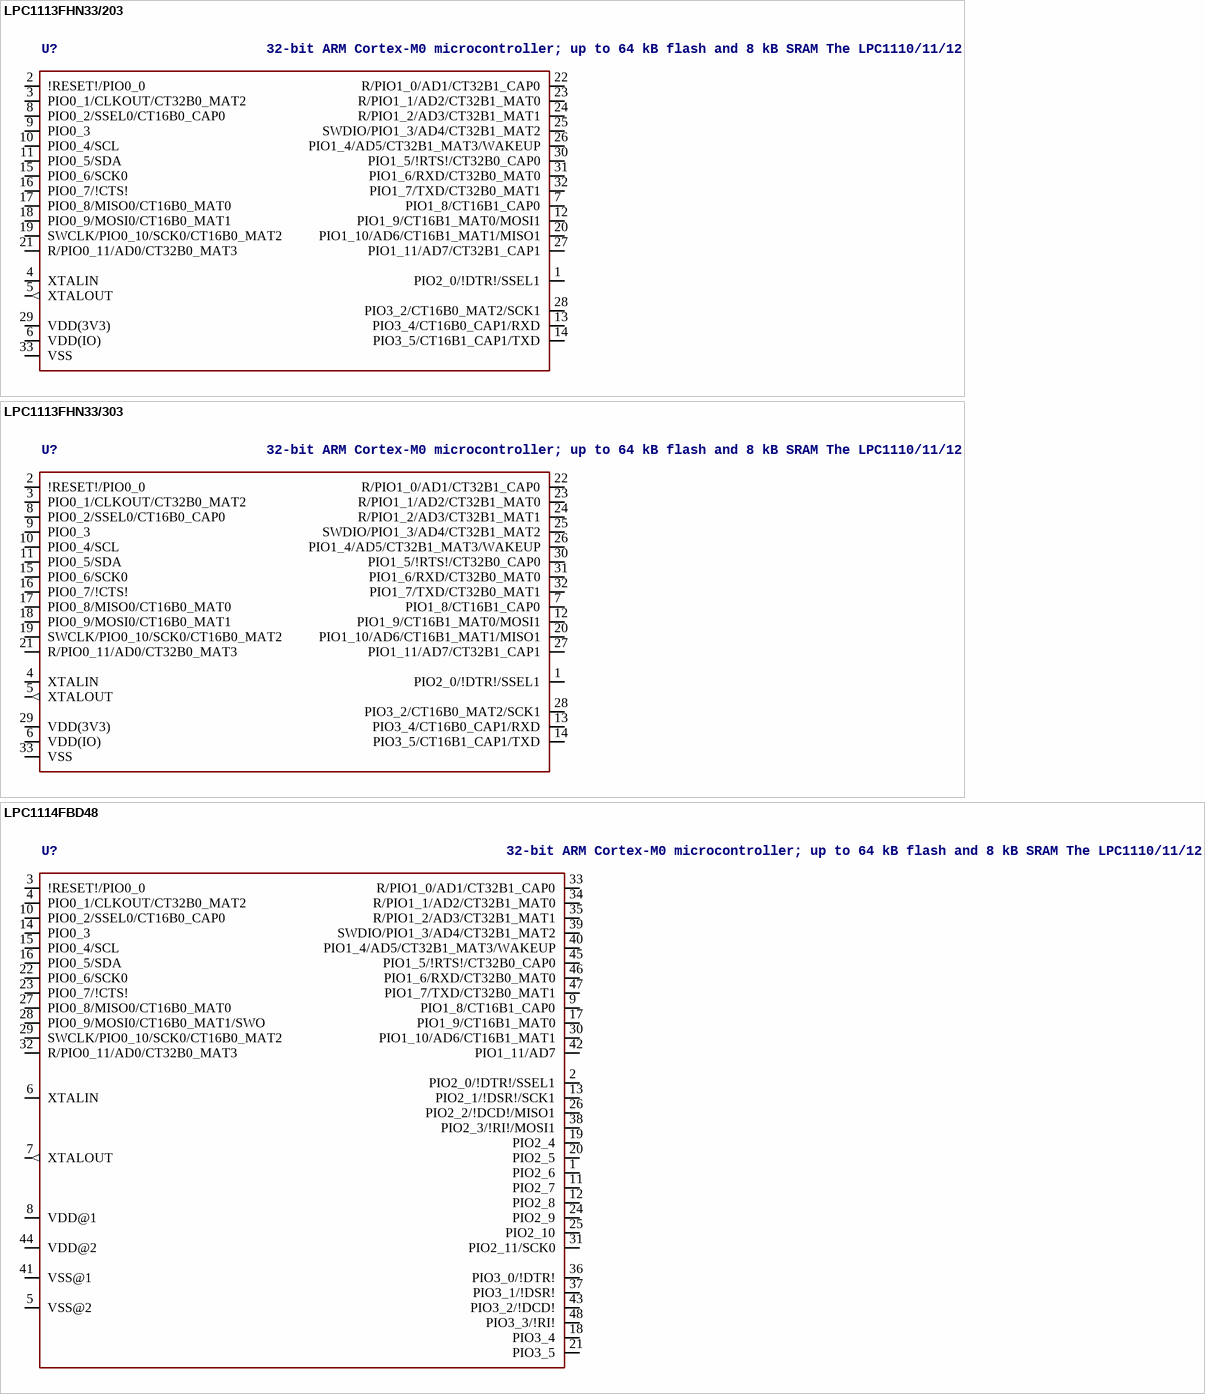
[diagram p61: symbols LPC1113FHN33/203 to LPC1114FBD48]

## LPC1113FHN33/203
designator U?, comment 32-bit ARM Cortex-M0 microcontroller; up to 64 kB flash and 8 kB SRAM The LPC1110/11/12/13/14/15 are a ARM Cortex-M0 based, low-cost 32-bit MCU family, designed for 8/16-bit microcontroller applications, offering performance, low power, simple instruction set and memory addressing together with reduced code size compared to existing 8/16-bit architectures. The LPC1110/11/12/13/14/15 operate at CPU frequencies of up to 50 MHz. The peripheral complement of the LPC1110/11/12/13/14/15 includes up to 64 kB of flash memory, up to 8 kB of data memory, one Fast-mode Plus I 2 C-bus interface, one RS-485/EIA-485 UART, up to two SPI interfaces with SSP features, four general purpose counter/timers, a 10-bit ADC, and up to 42 general purpose I/O pins. Remark: The LPC111x series consists of the LPC1100 series (parts LPC111x/101/201/301), LPC1100L series (parts LPC111x/002/102/202/302), and the LPC1100XL series (parts LPC111x/103/203/303/323/333). The LPC1100L and LPC1100XL series include the power profiles, a windowed watchdog timer, and a configurable open-drain mode.    AAL Eindhoven MK
ADC: 8; FLASH: 24kB; GPIO: 28; PWR_PROFILES: yes; SPI: 2; SRAM: 4kB; SERIES: LPC1100XL
footprint SOT-HVQFN33
pins: 1 PIO2_0/!DTR!/SSEL1, 2 !RESET!/PIO0_0, 3 PIO0_1/CLKOUT/CT32B0_MAT2, 4 XTALIN, 5 XTALOUT (out), 6 VDD(IO) (power), 7 PIO1_8/CT16B1_CAP0, 8 PIO0_2/SSEL0/CT16B0_CAP0, 9 PIO0_3, 10 PIO0_4/SCL, 11 PIO0_5/SDA, 12 PIO1_9/CT16B1_MAT0/MOSI1, 13 PIO3_4/CT16B0_CAP1/RXD, 14 PIO3_5/CT16B1_CAP1/TXD, 15 PIO0_6/SCK0, 16 PIO0_7/!CTS!, 17 PIO0_8/MISO0/CT16B0_MAT0, 18 PIO0_9/MOSI0/CT16B0_MAT1, 19 SWCLK/PIO0_10/SCK0/CT16B0_MAT2, 20 PIO1_10/AD6/CT16B1_MAT1/MISO1, 21 R/PIO0_11/AD0/CT32B0_MAT3, 22 R/PIO1_0/AD1/CT32B1_CAP0, 23 R/PIO1_1/AD2/CT32B1_MAT0, 24 R/PIO1_2/AD3/CT32B1_MAT1, 25 SWDIO/PIO1_3/AD4/CT32B1_MAT2, 26 PIO1_4/AD5/CT32B1_MAT3/WAKEUP, 27 PIO1_11/AD7/CT32B1_CAP1, 28 PIO3_2/CT16B0_MAT2/SCK1, 29 VDD(3V3) (power), 30 PIO1_5/!RTS!/CT32B0_CAP0, 31 PIO1_6/RXD/CT32B0_MAT0, 32 PIO1_7/TXD/CT32B0_MAT1, 33 VSS (power)

## LPC1113FHN33/303
designator U?, comment 32-bit ARM Cortex-M0 microcontroller; up to 64 kB flash and 8 kB SRAM The LPC1110/11/12/13/14/15 are a ARM Cortex-M0 based, low-cost 32-bit MCU family, designed for 8/16-bit microcontroller applications, offering performance, low power, simple instruction set and memory addressing together with reduced code size compared to existing 8/16-bit architectures. The LPC1110/11/12/13/14/15 operate at CPU frequencies of up to 50 MHz. The peripheral complement of the LPC1110/11/12/13/14/15 includes up to 64 kB of flash memory, up to 8 kB of data memory, one Fast-mode Plus I 2 C-bus interface, one RS-485/EIA-485 UART, up to two SPI interfaces with SSP features, four general purpose counter/timers, a 10-bit ADC, and up to 42 general purpose I/O pins. Remark: The LPC111x series consists of the LPC1100 series (parts LPC111x/101/201/301), LPC1100L series (parts LPC111x/002/102/202/302), and the LPC1100XL series (parts LPC111x/103/203/303/323/333). The LPC1100L and LPC1100XL series include the power profiles, a windowed watchdog timer, and a configurable open-drain mode.    AAL Eindhoven MK
ADC: 8; FLASH: 24kB; GPIO: 28; PWR_PROFILES: yes; SPI: 2; SRAM: 8kB; SERIES: LPC1100XL
footprint SOT-HVQFN33
pins: 1 PIO2_0/!DTR!/SSEL1, 2 !RESET!/PIO0_0, 3 PIO0_1/CLKOUT/CT32B0_MAT2, 4 XTALIN, 5 XTALOUT (out), 6 VDD(IO) (power), 7 PIO1_8/CT16B1_CAP0, 8 PIO0_2/SSEL0/CT16B0_CAP0, 9 PIO0_3, 10 PIO0_4/SCL, 11 PIO0_5/SDA, 12 PIO1_9/CT16B1_MAT0/MOSI1, 13 PIO3_4/CT16B0_CAP1/RXD, 14 PIO3_5/CT16B1_CAP1/TXD, 15 PIO0_6/SCK0, 16 PIO0_7/!CTS!, 17 PIO0_8/MISO0/CT16B0_MAT0, 18 PIO0_9/MOSI0/CT16B0_MAT1, 19 SWCLK/PIO0_10/SCK0/CT16B0_MAT2, 20 PIO1_10/AD6/CT16B1_MAT1/MISO1, 21 R/PIO0_11/AD0/CT32B0_MAT3, 22 R/PIO1_0/AD1/CT32B1_CAP0, 23 R/PIO1_1/AD2/CT32B1_MAT0, 24 R/PIO1_2/AD3/CT32B1_MAT1, 25 SWDIO/PIO1_3/AD4/CT32B1_MAT2, 26 PIO1_4/AD5/CT32B1_MAT3/WAKEUP, 27 PIO1_11/AD7/CT32B1_CAP1, 28 PIO3_2/CT16B0_MAT2/SCK1, 29 VDD(3V3) (power), 30 PIO1_5/!RTS!/CT32B0_CAP0, 31 PIO1_6/RXD/CT32B0_MAT0, 32 PIO1_7/TXD/CT32B0_MAT1, 33 VSS (power)

## LPC1114FBD48
designator U?, comment 32-bit ARM Cortex-M0 microcontroller; up to 64 kB flash and 8 kB SRAM The LPC1110/11/12/13/14/15 are a ARM Cortex-M0 based, low-cost 32-bit MCU family, designed for 8/16-bit microcontroller applications, offering performance, low power, simple instruction set and memory addressing together with reduced code size compared to existing 8/16-bit architectures. The LPC1110/11/12/13/14/15 operate at CPU frequencies of up to 50 MHz. The peripheral complement of the LPC1110/11/12/13/14/15 includes up to 64 kB of flash memory, up to 8 kB of data memory, one Fast-mode Plus I 2 C-bus interface, one RS-485/EIA-485 UART, up to two SPI interfaces with SSP features, four general purpose counter/timers, a 10-bit ADC, and up to 42 general purpose I/O pins. Remark: The LPC111x series consists of the LPC1100 series (parts LPC111x/101/201/301), LPC1100L series (parts LPC111x/002/102/202/302), and the LPC1100XL series (parts LPC111x/103/203/303/323/333). The LPC1100L and LPC1100XL series include the power profiles, a windowed watchdog timer, and a configurable open-drain mode.    AAL Eindhoven MK
ADC: 8; FLASH: 32kB; GPIO: 42; PWR_PROFILES: no; SPI: 2; SRAM: 8kB; PWR_PROFILES: yes; SERIES: LPC1100; SERIES: LPC1100L
footprint SOT313-2
pins: 1 PIO2_6, 2 PIO2_0/!DTR!/SSEL1, 3 !RESET!/PIO0_0, 4 PIO0_1/CLKOUT/CT32B0_MAT2, 5 VSS@2 (power), 6 XTALIN, 7 XTALOUT (out), 8 VDD@1 (power), 9 PIO1_8/CT16B1_CAP0, 10 PIO0_2/SSEL0/CT16B0_CAP0, 11 PIO2_7, 12 PIO2_8, 13 PIO2_1/!DSR!/SCK1, 14 PIO0_3, 15 PIO0_4/SCL, 16 PIO0_5/SDA, 17 PIO1_9/CT16B1_MAT0, 18 PIO3_4, 19 PIO2_4, 20 PIO2_5, 21 PIO3_5, 22 PIO0_6/SCK0, 23 PIO0_7/!CTS!, 24 PIO2_9, 25 PIO2_10, 26 PIO2_2/!DCD!/MISO1, 27 PIO0_8/MISO0/CT16B0_MAT0, 28 PIO0_9/MOSI0/CT16B0_MAT1/SWO, 29 SWCLK/PIO0_10/SCK0/CT16B0_MAT2, 30 PIO1_10/AD6/CT16B1_MAT1, 31 PIO2_11/SCK0, 32 R/PIO0_11/AD0/CT32B0_MAT3, 33 R/PIO1_0/AD1/CT32B1_CAP0, 34 R/PIO1_1/AD2/CT32B1_MAT0, 35 R/PIO1_2/AD3/CT32B1_MAT1, 36 PIO3_0/!DTR!, 37 PIO3_1/!DSR!, 38 PIO2_3/!RI!/MOSI1, 39 SWDIO/PIO1_3/AD4/CT32B1_MAT2, 40 PIO1_4/AD5/CT32B1_MAT3/WAKEUP, 41 VSS@1 (power), 42 PIO1_11/AD7, 43 PIO3_2/!DCD!, 44 VDD@2 (power), 45 PIO1_5/!RTS!/CT32B0_CAP0, 46 PIO1_6/RXD/CT32B0_MAT0, 47 PIO1_7/TXD/CT32B0_MAT1, 48 PIO3_3/!RI!

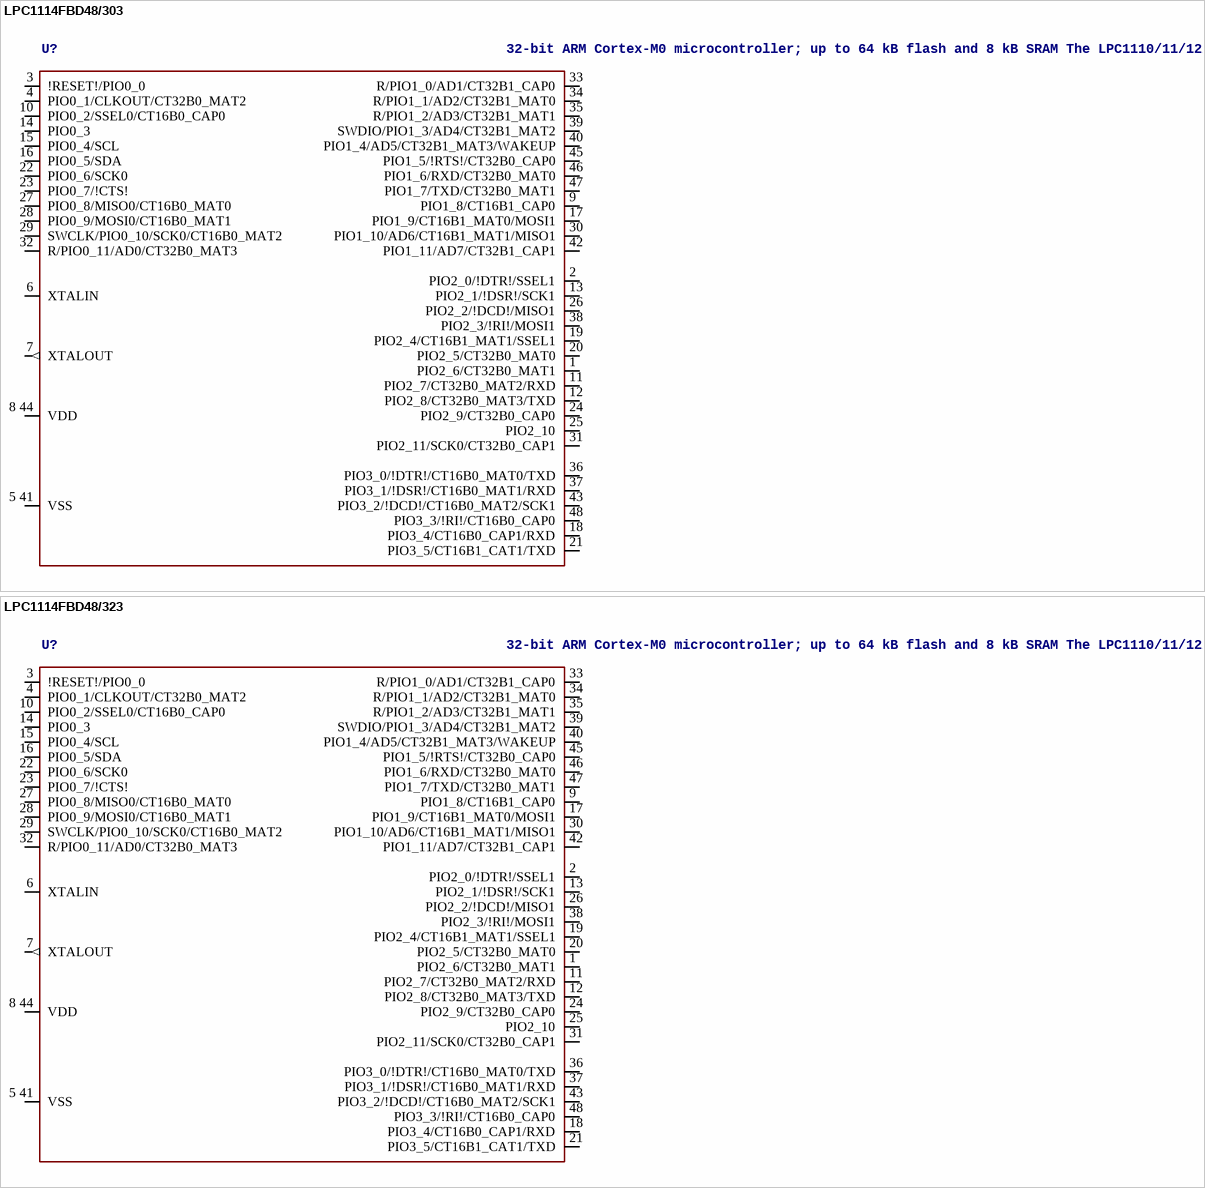
[diagram p62: symbols LPC1114FBD48/303 to LPC1114FBD48/323]

## LPC1114FBD48/303
designator U?, comment 32-bit ARM Cortex-M0 microcontroller; up to 64 kB flash and 8 kB SRAM The LPC1110/11/12/13/14/15 are a ARM Cortex-M0 based, low-cost 32-bit MCU family, designed for 8/16-bit microcontroller applications, offering performance, low power, simple instruction set and memory addressing together with reduced code size compared to existing 8/16-bit architectures. The LPC1110/11/12/13/14/15 operate at CPU frequencies of up to 50 MHz. The peripheral complement of the LPC1110/11/12/13/14/15 includes up to 64 kB of flash memory, up to 8 kB of data memory, one Fast-mode Plus I 2 C-bus interface, one RS-485/EIA-485 UART, up to two SPI interfaces with SSP features, four general purpose counter/timers, a 10-bit ADC, and up to 42 general purpose I/O pins. Remark: The LPC111x series consists of the LPC1100 series (parts LPC111x/101/201/301), LPC1100L series (parts LPC111x/002/102/202/302), and the LPC1100XL series (parts LPC111x/103/203/303/323/333). The LPC1100L and LPC1100XL series include the power profiles, a windowed watchdog timer, and a configurable open-drain mode.    AAL Eindhoven MK
ADC: 8; FLASH: 32kB; GPIO: 42; PWR_PROFILES: yes; SPI: 2; SRAM: 8kB; SERIES: LPC1100XL
footprint SOT313-2
pins: 1 PIO2_6/CT32B0_MAT1, 2 PIO2_0/!DTR!/SSEL1, 3 !RESET!/PIO0_0, 4 PIO0_1/CLKOUT/CT32B0_MAT2, 5 41 VSS (power), 6 XTALIN, 7 XTALOUT (out), 8 44 VDD (power), 9 PIO1_8/CT16B1_CAP0, 10 PIO0_2/SSEL0/CT16B0_CAP0, 11 PIO2_7/CT32B0_MAT2/RXD, 12 PIO2_8/CT32B0_MAT3/TXD, 13 PIO2_1/!DSR!/SCK1, 14 PIO0_3, 15 PIO0_4/SCL, 16 PIO0_5/SDA, 17 PIO1_9/CT16B1_MAT0/MOSI1, 18 PIO3_4/CT16B0_CAP1/RXD, 19 PIO2_4/CT16B1_MAT1/SSEL1, 20 PIO2_5/CT32B0_MAT0, 21 PIO3_5/CT16B1_CAT1/TXD, 22 PIO0_6/SCK0, 23 PIO0_7/!CTS!, 24 PIO2_9/CT32B0_CAP0, 25 PIO2_10, 26 PIO2_2/!DCD!/MISO1, 27 PIO0_8/MISO0/CT16B0_MAT0, 28 PIO0_9/MOSI0/CT16B0_MAT1, 29 SWCLK/PIO0_10/SCK0/CT16B0_MAT2, 30 PIO1_10/AD6/CT16B1_MAT1/MISO1, 31 PIO2_11/SCK0/CT32B0_CAP1, 32 R/PIO0_11/AD0/CT32B0_MAT3, 33 R/PIO1_0/AD1/CT32B1_CAP0, 34 R/PIO1_1/AD2/CT32B1_MAT0, 35 R/PIO1_2/AD3/CT32B1_MAT1, 36 PIO3_0/!DTR!/CT16B0_MAT0/TXD, 37 PIO3_1/!DSR!/CT16B0_MAT1/RXD, 38 PIO2_3/!RI!/MOSI1, 39 SWDIO/PIO1_3/AD4/CT32B1_MAT2, 40 PIO1_4/AD5/CT32B1_MAT3/WAKEUP, 42 PIO1_11/AD7/CT32B1_CAP1, 43 PIO3_2/!DCD!/CT16B0_MAT2/SCK1, 45 PIO1_5/!RTS!/CT32B0_CAP0, 46 PIO1_6/RXD/CT32B0_MAT0, 47 PIO1_7/TXD/CT32B0_MAT1, 48 PIO3_3/!RI!/CT16B0_CAP0